# Altium footprint library NXP.PcbLib: 5 footprints (part 2 of 3)
Each footprint in its own frame and in the unit in brackets; x right, y up, seen from the top. Pads: shape width x height; smd on the part's side, far side on the other; paste and mask are expansions set on the pad; w line width, h text height; cw(c..) or ccw(c..) is an arc to the next point about the centre after c.
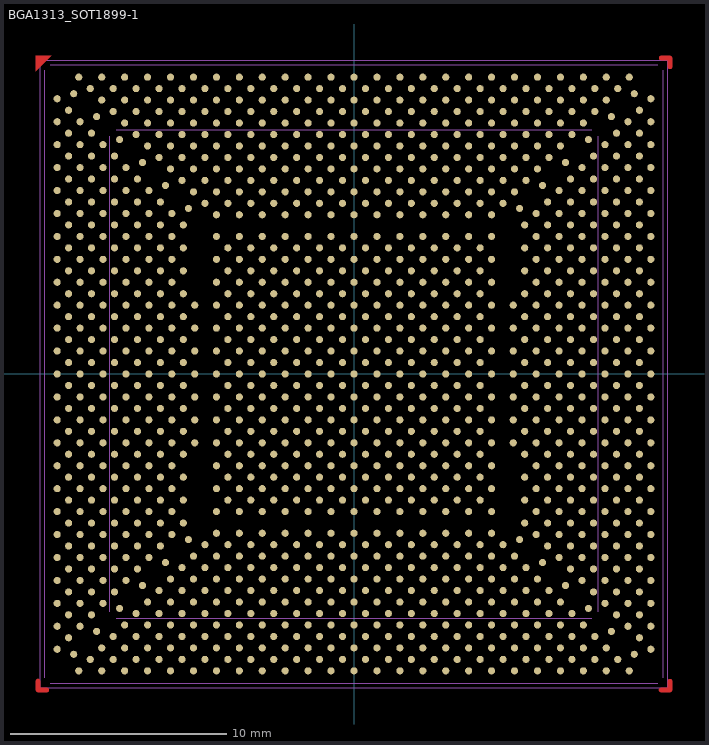
[diagram p1: the footprint, top view; thin cyan lines are the x and y axes]

## BGA1313_SOT1899-1 [mil]
pads (1313):
  round 13 smd mask+1.5: A3(-501.1,540.47) A5(-459.34,540.47) A7(-417.58,540.47) A9(-375.82,540.47) A11(-334.07,540.47) A13(-292.31,540.47) A15(-250.55,540.47) A17(-208.79,540.47) A19(-167.03,540.47) A21(-125.27,540.47) A23(-83.52,540.47) A25(-41.76,540.47) A27(0,540.47) A29(41.76,540.47) A31(83.52,540.47) A33(125.27,540.47) A35(167.03,540.47) A37(208.79,540.47) A39(250.55,540.47) A41(292.31,540.47) A43(334.07,540.47) A45(375.82,540.47) A47(417.58,540.47) A49(459.34,540.47) A51(501.1,540.47) AA1(-540.47,125.27) AA3(-498.71,125.27) AA5(-456.95,125.27) AA7(-415.19,125.27) AA9(-373.44,125.27) AA11(-331.68,125.27) AA13(-289.92,125.27) AA15(-250.55,125.27) AA17(-208.79,125.27) AA19(-167.03,125.27) AA21(-125.27,125.27) AA23(-83.52,125.27) AA25(-41.76,125.27) AA27(0,125.27) AA29(41.76,125.27) AA31(83.52,125.27) AA33(125.27,125.27) AA35(167.03,125.27) AA37(208.79,125.27) AA39(250.55,125.27) AA41(289.92,125.27) AA43(331.68,125.27) AA45(373.44,125.27) AA47(415.19,125.27) AA49(456.95,125.27) AA51(498.71,125.27) AA53(540.47,125.27) AB2(-519.59,104.4) AB4(-477.83,104.4) AB6(-436.07,104.4) AB8(-394.31,104.4) AB10(-352.56,104.4) AB12(-310.8,104.4) AB16(-229.67,104.4) AB18(-187.91,104.4) AB20(-146.15,104.4) AB22(-104.4,104.4) AB24(-62.64,104.4) AB26(-20.88,104.4) AB28(20.88,104.4) AB30(62.64,104.4) AB32(104.4,104.4) AB34(146.15,104.4) AB36(187.91,104.4) AB38(229.67,104.4) AB42(310.8,104.4) AB44(352.56,104.4) AB46(394.31,104.4) AB48(436.07,104.4) AB50(477.83,104.4) AB52(519.59,104.4) AC1(-540.47,83.52) AC3(-498.71,83.52) AC5(-456.95,83.52) AC7(-415.19,83.52) AC9(-373.44,83.52) AC11(-331.68,83.52) AC13(-289.92,83.52) AC15(-250.55,83.52) AC17(-208.79,83.52) AC19(-167.03,83.52) AC21(-125.27,83.52) AC23(-83.52,83.52) AC25(-41.76,83.52) AC27(0,83.52) AC29(41.76,83.52) AC31(83.52,83.52) AC33(125.27,83.52) AC35(167.03,83.52) AC37(208.79,83.52) AC39(250.55,83.52) AC41(289.92,83.52) AC43(331.68,83.52) AC45(373.44,83.52) AC47(415.19,83.52) AC49(456.95,83.52) AC51(498.71,83.52) AC53(540.47,83.52) AD2(-519.59,62.64) AD4(-477.83,62.64) AD6(-436.07,62.64) AD8(-394.32,62.64) AD10(-352.56,62.64) AD12(-310.8,62.64) AD16(-229.67,62.64) AD18(-187.91,62.64) AD20(-146.15,62.64) AD22(-104.4,62.64) AD24(-62.64,62.64) AD26(-20.88,62.64) AD28(20.88,62.64) AD30(62.64,62.64) AD32(104.4,62.64) AD34(146.15,62.64) AD36(187.91,62.64) AD38(229.67,62.64) AD42(310.8,62.64) AD44(352.56,62.64) AD46(394.31,62.64) AD48(436.07,62.64) AD50(477.83,62.64) AD52(519.59,62.64) AE1(-540.47,41.76) AE3(-498.71,41.76) AE5(-456.95,41.76) AE7(-415.19,41.76) AE9(-373.44,41.76) AE11(-331.68,41.76) AE13(-289.92,41.76) AE15(-250.55,41.76) AE17(-208.79,41.76) AE19(-167.03,41.76) AE21(-125.27,41.76) AE23(-83.52,41.76) AE25(-41.76,41.76) AE27(0,41.76) AE29(41.76,41.76) AE31(83.52,41.76) AE33(125.27,41.76) AE35(167.03,41.76) AE37(208.79,41.76) AE39(250.55,41.76) AE41(289.92,41.76) AE43(331.68,41.76) AE45(373.44,41.76) AE47(415.19,41.76) AE49(456.95,41.76) AE51(498.71,41.76) AE53(540.47,41.76) AF2(-519.59,20.88) AF4(-477.83,20.88) AF6(-436.07,20.88) AF8(-394.32,20.88) AF10(-352.56,20.88) AF12(-310.8,20.88) AF16(-229.67,20.88) AF18(-187.91,20.88) AF20(-146.15,20.88) AF22(-104.4,20.88) AF24(-62.64,20.88) AF26(-20.88,20.88) AF28(20.88,20.88) AF30(62.64,20.88) AF32(104.4,20.88) AF34(146.15,20.88) AF36(187.91,20.88) AF38(229.67,20.88) AF42(310.8,20.88) AF44(352.56,20.88) AF46(394.31,20.88) AF48(436.07,20.88) AF50(477.83,20.88) AF52(519.59,20.88) AG1(-540.47,0) AG3(-498.71,0) AG5(-456.95,0) AG7(-415.19,0) AG9(-373.44,0) AG11(-331.68,0) AG13(-289.92,0) AG15(-250.55,0) AG17(-208.79,0) AG19(-167.03,0) AG21(-125.27,0) AG23(-83.52,0) AG25(-41.76,0) AG27(0,0) AG29(41.76,0) AG31(83.52,0) AG33(125.27,0) AG35(167.03,0) AG37(208.79,0) AG39(250.55,0) AG41(289.92,0) AG43(331.68,0) AG45(373.44,0) AG47(415.19,0) AG49(456.95,0) AG51(498.71,0) AG53(540.47,0) AH2(-519.59,-20.88) AH4(-477.83,-20.88) AH6(-436.07,-20.88) AH8(-394.32,-20.88) AH10(-352.56,-20.88) AH12(-310.8,-20.88) AH16(-229.67,-20.88) AH18(-187.91,-20.88) AH20(-146.15,-20.88) AH22(-104.4,-20.88) AH24(-62.64,-20.88) AH26(-20.88,-20.88) AH28(20.88,-20.88) AH30(62.64,-20.88) AH32(104.4,-20.88) AH34(146.15,-20.88) AH36(187.91,-20.88) AH38(229.67,-20.88) AH42(310.8,-20.88) AH44(352.56,-20.88) AH46(394.31,-20.88) AH48(436.07,-20.88) AH50(477.83,-20.88) AH52(519.59,-20.88) AJ1(-540.47,-41.76) AJ3(-498.71,-41.76) AJ5(-456.95,-41.76) AJ7(-415.19,-41.76) AJ9(-373.44,-41.76) AJ11(-331.68,-41.76) AJ13(-289.92,-41.76) AJ15(-250.55,-41.76) AJ17(-208.79,-41.76) AJ19(-167.03,-41.76) AJ21(-125.27,-41.76) AJ23(-83.52,-41.76) AJ25(-41.76,-41.76) AJ27(0,-41.76) AJ29(41.76,-41.76) AJ31(83.52,-41.76) AJ33(125.27,-41.76) AJ35(167.03,-41.76) AJ37(208.79,-41.76) AJ39(250.55,-41.76) AJ41(289.92,-41.76) AJ43(331.68,-41.76) AJ45(373.44,-41.76) AJ47(415.19,-41.76) AJ49(456.95,-41.76) AJ51(498.71,-41.76) AJ53(540.47,-41.76) AK2(-519.59,-62.64) AK4(-477.83,-62.64) AK6(-436.07,-62.64) AK8(-394.32,-62.64) AK10(-352.56,-62.64) AK12(-310.8,-62.64) AK16(-229.67,-62.64) AK18(-187.91,-62.64) AK20(-146.15,-62.64) AK22(-104.4,-62.64) AK24(-62.64,-62.64) AK26(-20.88,-62.64) AK28(20.88,-62.64) AK30(62.64,-62.64) AK32(104.4,-62.64) AK34(146.15,-62.64) AK36(187.91,-62.64) AK38(229.67,-62.64) AK42(310.8,-62.64) AK44(352.56,-62.64) AK46(394.31,-62.64) AK48(436.07,-62.64) AK50(477.83,-62.64) AK52(519.59,-62.64) AL1(-540.47,-83.52) AL3(-498.71,-83.52) AL5(-456.95,-83.52) AL7(-415.19,-83.52) AL9(-373.44,-83.52) AL11(-331.68,-83.52) AL13(-289.92,-83.52) AL15(-250.55,-83.52) AL17(-208.79,-83.52) AL19(-167.03,-83.52) AL21(-125.27,-83.52) AL23(-83.52,-83.52) AL25(-41.76,-83.52) AL27(0,-83.52) AL29(41.76,-83.52) AL31(83.52,-83.52) AL33(125.27,-83.52) AL35(167.03,-83.52) AL37(208.79,-83.52) AL39(250.55,-83.52) AL41(289.92,-83.52) AL43(331.68,-83.52) AL45(373.44,-83.52) AL47(415.19,-83.52) AL49(456.95,-83.52) AL51(498.71,-83.52) AL53(540.47,-83.52) AM2(-519.59,-104.4) AM4(-477.83,-104.4) AM6(-436.07,-104.4) AM8(-394.31,-104.4) AM10(-352.56,-104.4) AM12(-310.8,-104.4) AM16(-229.67,-104.4) AM18(-187.91,-104.4) AM20(-146.15,-104.4) AM22(-104.4,-104.4) AM24(-62.64,-104.4) AM26(-20.88,-104.4) AM28(20.88,-104.4) AM30(62.64,-104.4) AM32(104.4,-104.4) AM34(146.15,-104.4) AM36(187.91,-104.4) AM38(229.67,-104.4) AM42(310.8,-104.4) AM44(352.56,-104.4) AM46(394.31,-104.4) AM48(436.07,-104.4) AM50(477.83,-104.4) AM52(519.59,-104.4) AN1(-540.47,-125.27) AN3(-498.71,-125.27) AN5(-456.95,-125.27) AN7(-415.19,-125.27) AN9(-373.44,-125.27) AN11(-331.68,-125.27) AN13(-289.92,-125.27) AN15(-250.55,-125.27) AN17(-208.79,-125.27) AN19(-167.03,-125.27) AN21(-125.27,-125.27) AN23(-83.52,-125.27) AN25(-41.76,-125.27) AN27(0,-125.27) AN29(41.76,-125.27) AN31(83.52,-125.27) AN33(125.27,-125.27) AN35(167.03,-125.27) AN37(208.79,-125.27) AN39(250.55,-125.27) AN41(289.92,-125.27) AN43(331.68,-125.27) AN45(373.44,-125.27) AN47(415.19,-125.27) AN49(456.95,-125.27) AN51(498.71,-125.27) AN53(540.47,-125.27) AP2(-519.59,-146.15) AP4(-477.83,-146.15) AP6(-436.07,-146.15) AP8(-394.31,-146.15) AP10(-352.56,-146.15) AP12(-310.8,-146.15) AP16(-229.67,-146.15) AP18(-187.91,-146.15) AP20(-146.15,-146.15) AP22(-104.4,-146.15) AP24(-62.64,-146.15) AP26(-20.88,-146.15) AP28(20.88,-146.15) AP30(62.64,-146.15) AP32(104.4,-146.15) AP34(146.15,-146.15) AP36(187.91,-146.15) AP38(229.67,-146.15) AP42(310.8,-146.15) AP44(352.56,-146.15) AP46(394.31,-146.15) AP48(436.07,-146.15) AP50(477.83,-146.15) AP52(519.59,-146.15) AR1(-540.47,-167.03) AR3(-498.71,-167.03) AR5(-456.95,-167.03) AR7(-415.19,-167.03) AR9(-373.44,-167.03) AR11(-331.68,-167.03) AR15(-250.55,-167.03) AR17(-208.79,-167.03) AR19(-167.03,-167.03) AR21(-125.27,-167.03) AR23(-83.52,-167.03) AR25(-41.76,-167.03) AR27(0,-167.03) AR29(41.76,-167.03) AR31(83.52,-167.03) AR33(125.27,-167.03) AR35(167.03,-167.03) AR37(208.79,-167.03) AR39(250.55,-167.03) AR43(331.68,-167.03) AR45(373.44,-167.03) AR47(415.19,-167.03) AR49(456.95,-167.03) AR51(498.71,-167.03) AR53(540.47,-167.03) AT2(-519.59,-187.91) AT4(-477.83,-187.91) AT6(-436.07,-187.91) AT8(-394.31,-187.91) AT10(-352.56,-187.91) AT12(-310.8,-187.91) AT16(-229.67,-187.91) AT18(-187.91,-187.91) AT20(-146.15,-187.91) AT22(-104.4,-187.91) AT24(-62.64,-187.91) AT26(-20.88,-187.91) AT28(20.88,-187.91) AT30(62.64,-187.91) AT32(104.4,-187.91) AT34(146.15,-187.91) AT36(187.91,-187.91) AT38(229.67,-187.91) AT42(310.8,-187.91) AT44(352.56,-187.91) AT46(394.31,-187.91) AT48(436.07,-187.91) AT50(477.83,-187.91) AT52(519.59,-187.91) AU1(-540.47,-208.79) AU3(-498.71,-208.79) AU5(-456.95,-208.79) AU7(-415.19,-208.79) AU9(-373.44,-208.79) AU11(-331.68,-208.79) AU15(-250.55,-208.79) AU17(-208.79,-208.79) AU19(-167.03,-208.79) AU21(-125.27,-208.79) AU23(-83.52,-208.79) AU25(-41.76,-208.79) AU27(0,-208.79) AU29(41.76,-208.79) AU31(83.52,-208.79) AU33(125.27,-208.79) AU35(167.03,-208.79) AU37(208.79,-208.79) AU39(250.55,-208.79) AU43(331.68,-208.79) AU45(373.44,-208.79) AU47(415.19,-208.79) AU49(456.95,-208.79) AU51(498.71,-208.79) AU53(540.47,-208.79) AV2(-519.59,-229.67) AV4(-477.83,-229.67) AV6(-436.07,-229.67) AV8(-394.31,-229.67) AV10(-352.56,-229.67) AV12(-310.8,-229.67) AV16(-229.67,-229.67) AV18(-187.91,-229.67) AV20(-146.15,-229.67) AV22(-104.4,-229.67) AV24(-62.64,-229.67) AV26(-20.88,-229.67) AV28(20.88,-229.67) AV30(62.64,-229.67) AV32(104.4,-229.67) AV34(146.15,-229.67) AV36(187.91,-229.67) AV38(229.67,-229.67) AV42(310.8,-229.67) AV44(352.56,-229.67) AV46(394.31,-229.67) AV48(436.07,-229.67) AV50(477.83,-229.67) AV52(519.59,-229.67) AW1(-540.47,-250.55) AW3(-498.71,-250.55) AW5(-456.95,-250.55) AW7(-415.19,-250.55) AW9(-373.44,-250.55) AW11(-331.68,-250.55) AW15(-250.55,-250.55) AW17(-208.79,-250.55) AW19(-167.03,-250.55) AW21(-125.27,-250.55) AW23(-83.52,-250.55) AW25(-41.76,-250.55) AW27(0,-250.55) AW29(41.76,-250.55) AW31(83.52,-250.55) AW33(125.27,-250.55) AW35(167.03,-250.55) AW37(208.79,-250.55) AW39(250.55,-250.55) AW43(331.68,-250.55) AW45(373.44,-250.55) AW47(415.19,-250.55) AW49(456.95,-250.55) AW51(498.71,-250.55) AW53(540.47,-250.55) AY2(-519.59,-271.43) AY4(-477.83,-271.43) AY6(-436.07,-271.43) AY8(-394.31,-271.43) AY10(-352.56,-271.43) AY12(-310.8,-271.43) AY42(310.8,-271.43) AY44(352.56,-271.43) AY46(394.31,-271.43) AY48(436.07,-271.43) AY50(477.83,-271.43) AY52(519.59,-271.43) B4(-480.22,519.59) B6(-438.46,519.59) B8(-396.7,519.59) B10(-354.94,519.59) B12(-313.19,519.59) B14(-271.43,519.59) B16(-229.67,519.59) B18(-187.91,519.59) B20(-146.15,519.59) B22(-104.4,519.59) B24(-62.64,519.59) B26(-20.88,519.59) B28(20.88,519.59) B30(62.64,519.59) B32(104.4,519.59) B34(146.15,519.59) B36(187.91,519.59) B38(229.67,519.59) B40(271.43,519.59) B42(313.19,519.59) B44(354.94,519.59) B46(396.7,519.59) B48(438.46,519.59) B50(480.22,519.59) BA1(-540.47,-292.31) BA3(-498.71,-292.31) BA5(-456.95,-292.31) BA7(-415.19,-292.31) BA9(-373.44,-292.31) BA11(-331.68,-292.31) BA13(-301.55,-301.55) BA15(-250.55,-289.92) BA17(-208.79,-289.92) BA19(-167.03,-289.92) BA21(-125.27,-289.92) BA23(-83.52,-289.92) BA25(-41.76,-289.92) BA27(0,-289.92) BA29(41.76,-289.92) BA31(83.52,-289.92) BA33(125.27,-289.92) BA35(167.03,-289.92) BA37(208.79,-289.92) BA39(250.55,-289.92) BA41(301.55,-301.55) BA43(331.68,-292.31) BA45(373.44,-292.31) BA47(415.19,-292.31) BA49(456.95,-292.31) BA51(498.71,-292.31) BA53(540.47,-292.31) BB2(-519.59,-313.19) BB4(-477.83,-313.19) BB6(-436.07,-313.19) BB8(-394.31,-313.19) BB10(-352.56,-313.19) BB14(-271.43,-310.8) BB16(-229.67,-310.8) BB18(-187.91,-310.8) BB20(-146.15,-310.8) BB22(-104.4,-310.8) BB24(-62.64,-310.8) BB26(-20.88,-310.8) BB28(20.88,-310.8) BB30(62.64,-310.8) BB32(104.4,-310.8) BB34(146.15,-310.8) BB36(187.91,-310.8) BB38(229.67,-310.8) BB40(271.43,-310.8) BB44(352.56,-313.19) BB46(394.31,-313.19) BB48(436.07,-313.19) BB50(477.83,-313.19) BB52(519.59,-313.19) BC1(-540.47,-334.07) BC3(-498.71,-334.07) BC5(-456.95,-334.07) BC7(-415.19,-334.07) BC9(-373.44,-334.07) BC11(-343.31,-343.31) BC13(-292.31,-331.68) BC15(-250.55,-331.68) BC17(-208.79,-331.68) BC19(-167.03,-331.68) BC21(-125.27,-331.68) BC23(-83.52,-331.68) BC25(-41.76,-331.68) BC27(0,-331.68) BC29(41.76,-331.68) BC31(83.52,-331.68) BC33(125.27,-331.68) BC35(167.03,-331.68) BC37(208.79,-331.68) BC39(250.55,-331.68) BC41(292.31,-331.68) BC43(343.31,-343.31) BC45(373.44,-334.07) BC47(415.19,-334.07) BC49(456.95,-334.07) BC51(498.71,-334.07) BC53(540.47,-334.07) BD2(-519.59,-354.94) BD4(-477.83,-354.94) BD6(-436.07,-354.94) BD8(-394.31,-354.94) BD12(-313.19,-352.56) BD14(-271.43,-352.56) BD16(-229.67,-352.56) BD18(-187.91,-352.56) BD20(-146.15,-352.56) BD22(-104.4,-352.56) BD24(-62.64,-352.56) BD26(-20.88,-352.56) BD28(20.88,-352.56) BD30(62.64,-352.56) BD32(104.4,-352.56) BD34(146.15,-352.56) BD36(187.91,-352.56) BD38(229.67,-352.56) BD40(271.43,-352.56) BD42(313.19,-352.56) BD46(394.31,-354.94) BD48(436.07,-354.94) BD50(477.83,-354.94) BD52(519.59,-354.94) BE1(-540.47,-375.82) BE3(-498.71,-375.82) BE5(-456.95,-375.82) BE7(-415.19,-375.82) BE9(-385.07,-385.07) BE11(-334.07,-373.44) BE13(-292.31,-373.44) BE15(-250.55,-373.44) BE17(-208.79,-373.44) BE19(-167.03,-373.44) BE21(-125.27,-373.44) BE23(-83.52,-373.44) BE25(-41.76,-373.44) BE27(0,-373.44) BE29(41.76,-373.44) BE31(83.52,-373.44) BE33(125.27,-373.44) BE35(167.03,-373.44) BE37(208.79,-373.44) BE39(250.55,-373.44) BE41(292.31,-373.44) BE43(334.07,-373.44) BE45(385.07,-385.07) BE47(415.19,-375.82) BE49(456.95,-375.82) BE51(498.71,-375.82) BE53(540.47,-375.82) BF2(-519.59,-396.7) BF4(-477.83,-396.7) BF6(-436.07,-396.7) BF10(-354.94,-394.31) BF12(-313.19,-394.31) BF14(-271.43,-394.31) BF16(-229.67,-394.31) BF18(-187.91,-394.31) BF20(-146.15,-394.31) BF22(-104.4,-394.31) BF24(-62.64,-394.31) BF26(-20.88,-394.31) BF28(20.88,-394.31) BF30(62.64,-394.31) BF32(104.4,-394.31) BF34(146.15,-394.31) BF36(187.91,-394.31) BF38(229.67,-394.31) BF40(271.43,-394.31) BF42(313.19,-394.31) BF44(354.94,-394.31) BF48(436.07,-396.7) BF50(477.83,-396.7) BF52(519.59,-396.7) BG1(-540.47,-417.58) BG3(-498.71,-417.58) BG5(-456.95,-417.58) BG7(-426.83,-426.83) BG9(-375.82,-415.19) BG11(-334.07,-415.19) BG13(-292.31,-415.19) BG15(-250.55,-415.19) BG17(-208.79,-415.19) BG19(-167.03,-415.19) BG21(-125.27,-415.19) BG23(-83.52,-415.19) BG25(-41.76,-415.19) BG27(0,-415.19) BG29(41.76,-415.19) BG31(83.52,-415.19) BG33(125.27,-415.19) BG35(167.03,-415.19) BG37(208.79,-415.19) BG39(250.55,-415.19) BG41(292.31,-415.19) BG43(334.07,-415.19) BG45(375.82,-415.19) BG47(426.83,-426.83) BG49(456.95,-417.58) BG51(498.71,-417.58) BG53(540.47,-417.58) BH2(-519.59,-438.46) BH4(-477.83,-438.46) BH8(-396.7,-436.07) BH10(-354.94,-436.07) BH12(-313.19,-436.07) BH14(-271.43,-436.07) BH16(-229.67,-436.07) BH18(-187.91,-436.07) BH20(-146.15,-436.07) BH22(-104.4,-436.07) BH24(-62.64,-436.07) BH26(-20.88,-436.07) BH28(20.88,-436.07) BH30(62.64,-436.07) BH32(104.4,-436.07) BH34(146.15,-436.07) BH36(187.91,-436.07) BH38(229.67,-436.07) BH40(271.43,-436.07) BH42(313.19,-436.07) BH44(354.94,-436.07) BH46(396.7,-436.07) BH50(477.83,-438.46) BH52(519.59,-438.46) BJ1(-540.47,-459.34) BJ3(-498.71,-459.34) BJ5(-468.59,-468.59) BJ7(-417.58,-456.95) BJ9(-375.82,-456.95) BJ11(-334.07,-456.95) BJ13(-292.31,-456.95) BJ15(-250.55,-456.95) BJ17(-208.79,-456.95) BJ19(-167.03,-456.95) BJ21(-125.27,-456.95) BJ23(-83.52,-456.95) BJ25(-41.76,-456.95) BJ27(0,-456.95) BJ29(41.76,-456.95) BJ31(83.52,-456.95) BJ33(125.27,-456.95) BJ35(167.03,-456.95) BJ37(208.79,-456.95) BJ39(250.55,-456.95) BJ41(292.31,-456.95) BJ43(334.07,-456.95) BJ45(375.82,-456.95) BJ47(417.58,-456.95) BJ49(468.59,-468.59) BJ51(498.71,-459.34) BJ53(540.47,-459.34) BK2(-519.59,-480.22) BK6(-438.46,-477.83) BK8(-396.7,-477.83) BK10(-354.94,-477.83) BK12(-313.19,-477.83) BK14(-271.43,-477.83) BK16(-229.67,-477.83) BK18(-187.91,-477.83) BK20(-146.15,-477.83) BK22(-104.4,-477.83) BK24(-62.64,-477.83) BK26(-20.88,-477.83) BK28(20.88,-477.83) BK30(62.64,-477.83) BK32(104.4,-477.83) BK34(146.15,-477.83) BK36(187.91,-477.83) BK38(229.67,-477.83) BK40(271.43,-477.83) BK42(313.19,-477.83) BK44(354.94,-477.83) BK46(396.7,-477.83) BK48(438.46,-477.83) BK52(519.59,-480.22) BL1(-540.47,-501.1) BL3(-510.34,-510.34) BL5(-459.34,-498.71) BL7(-417.58,-498.71) BL9(-375.82,-498.71) BL11(-334.07,-498.71) BL13(-292.31,-498.71) BL15(-250.55,-498.71) BL17(-208.79,-498.71) BL19(-167.03,-498.71) BL21(-125.27,-498.71) BL23(-83.52,-498.71) BL25(-41.76,-498.71) BL27(0,-498.71) BL29(41.76,-498.71) BL31(83.52,-498.71) BL33(125.27,-498.71) BL35(167.03,-498.71) BL37(208.79,-498.71) BL39(250.55,-498.71) BL41(292.31,-498.71) BL43(334.07,-498.71) BL45(375.82,-498.71) BL47(417.58,-498.71) BL49(459.34,-498.71) BL51(510.34,-510.34) BL53(540.47,-501.1) BM4(-480.22,-519.59) BM6(-438.46,-519.59) BM8(-396.7,-519.59) BM10(-354.94,-519.59) BM12(-313.19,-519.59) BM14(-271.43,-519.59) BM16(-229.67,-519.59) BM18(-187.91,-519.59) BM20(-146.15,-519.59) BM22(-104.4,-519.59) BM24(-62.64,-519.59) BM26(-20.88,-519.59) BM28(20.88,-519.59) BM30(62.64,-519.59) BM32(104.4,-519.59) BM34(146.15,-519.59) BM36(187.91,-519.59) BM38(229.67,-519.59) BM40(271.43,-519.59) BM42(313.19,-519.59) BM44(354.94,-519.59) BM46(396.7,-519.59) BM48(438.46,-519.59) BM50(480.22,-519.59) BN3(-501.1,-540.47) BN5(-459.34,-540.47) BN7(-417.58,-540.47) BN9(-375.82,-540.47) BN11(-334.07,-540.47) BN13(-292.31,-540.47) BN15(-250.55,-540.47) BN17(-208.79,-540.47) BN19(-167.03,-540.47) BN21(-125.27,-540.47) BN23(-83.52,-540.47) BN25(-41.76,-540.47) BN27(0,-540.47) BN29(41.76,-540.47) BN31(83.52,-540.47) BN33(125.27,-540.47) BN35(167.03,-540.47) BN37(208.79,-540.47) BN39(250.55,-540.47) BN41(292.31,-540.47) BN43(334.07,-540.47) BN45(375.82,-540.47) BN47(417.58,-540.47) BN49(459.34,-540.47) BN51(501.1,-540.47) C1(-540.47,501.1) C3(-510.34,510.34) C5(-459.34,498.71) C7(-417.58,498.71) C9(-375.82,498.71) C11(-334.07,498.71) C13(-292.31,498.71) C15(-250.55,498.71) C17(-208.79,498.71) C19(-167.03,498.71) C21(-125.27,498.71) C23(-83.52,498.71) C25(-41.76,498.71) C27(0,498.71) C29(41.76,498.71) C31(83.52,498.71) C33(125.27,498.71) C35(167.03,498.71) C37(208.79,498.71) C39(250.55,498.71) C41(292.31,498.71) C43(334.07,498.71) C45(375.82,498.71) C47(417.58,498.71) C49(459.34,498.71) C51(510.34,510.34) C53(540.47,501.1) D2(-519.59,480.22) D6(-438.46,477.83) D8(-396.7,477.83) D10(-354.94,477.83) D12(-313.19,477.83) D14(-271.43,477.83) D16(-229.67,477.83) D18(-187.91,477.83) D20(-146.15,477.83) D22(-104.4,477.83) D24(-62.64,477.83) D26(-20.88,477.83) D28(20.88,477.83) D30(62.64,477.83) D32(104.4,477.83) D34(146.15,477.83) D36(187.91,477.83) D38(229.67,477.83) D40(271.43,477.83) D42(313.19,477.83) D44(354.94,477.83) D46(396.7,477.83) D48(438.46,477.83) D52(519.59,480.22) E1(-540.47,459.34) E3(-498.71,459.34) E5(-468.59,468.59) E7(-417.58,456.95) E9(-375.82,456.95) E11(-334.07,456.95) E13(-292.31,456.95) E15(-250.55,456.95) E17(-208.79,456.95) E19(-167.03,456.95) E21(-125.27,456.95) E23(-83.52,456.95) E25(-41.76,456.95) E27(0,456.95) E29(41.76,456.95) E31(83.52,456.95) E33(125.27,456.95) E35(167.03,456.95) E37(208.79,456.95) E39(250.55,456.95) E41(292.31,456.95) E43(334.07,456.95) E45(375.82,456.95) E47(417.58,456.95) E49(468.59,468.59) E51(498.71,459.34) E53(540.47,459.34) F2(-519.59,438.46) F4(-477.83,438.46) F8(-396.7,436.07) F10(-354.94,436.07) F12(-313.19,436.07) F14(-271.43,436.07) F16(-229.67,436.07) F18(-187.91,436.07) F20(-146.15,436.07) F22(-104.4,436.07) F24(-62.64,436.07) F26(-20.88,436.07) F28(20.88,436.07) F30(62.64,436.07) F32(104.4,436.07) F34(146.15,436.07) F36(187.91,436.07) F38(229.67,436.07) F40(271.43,436.07) F42(313.19,436.07) F44(354.94,436.07) F46(396.7,436.07) F50(477.83,438.46) F52(519.59,438.46) G1(-540.47,417.58) G3(-498.71,417.58) G5(-456.95,417.58) G7(-426.83,426.83) G9(-375.82,415.19) G11(-334.07,415.19) G13(-292.31,415.19) G15(-250.55,415.19) G17(-208.79,415.19) G19(-167.03,415.19) G21(-125.27,415.19) G23(-83.52,415.19) G25(-41.76,415.19) G27(0,415.19) G29(41.76,415.19) G31(83.52,415.19) G33(125.27,415.19) G35(167.03,415.19) G37(208.79,415.19) G39(250.55,415.19) G41(292.31,415.19) G43(334.07,415.19) G45(375.82,415.19) G47(426.83,426.83) G49(456.95,417.58) G51(498.71,417.58) G53(540.47,417.58) H2(-519.59,396.7) H4(-477.83,396.7) H6(-436.07,396.7) H10(-354.94,394.31) H12(-313.19,394.31) H14(-271.43,394.31) H16(-229.67,394.31) H18(-187.91,394.31) H20(-146.15,394.31) H22(-104.4,394.31) H24(-62.64,394.31) H26(-20.88,394.31) H28(20.88,394.31) H30(62.64,394.31) H32(104.4,394.31) H34(146.15,394.31) H36(187.91,394.31) H38(229.67,394.31) H40(271.43,394.31) H42(313.19,394.31) H44(354.94,394.31) H48(436.07,396.7) H50(477.83,396.7) H52(519.59,396.7) J1(-540.47,375.82) J3(-498.71,375.82) J5(-456.95,375.82) J7(-415.19,375.82) J9(-385.07,385.07) J11(-334.07,373.44) J13(-292.31,373.44) J15(-250.55,373.44) J17(-208.79,373.44) J19(-167.03,373.44) J21(-125.27,373.44) J23(-83.52,373.44) J25(-41.76,373.44) J27(0,373.44) J29(41.76,373.44) J31(83.52,373.44) J33(125.27,373.44) J35(167.03,373.44) J37(208.79,373.44) J39(250.55,373.44) J41(292.31,373.44) J43(334.07,373.44) J45(385.07,385.07) J47(415.19,375.82) J49(456.95,375.82) J51(498.71,375.82) J53(540.47,375.82) K2(-519.59,354.94) K4(-477.83,354.94) K6(-436.07,354.94) K8(-394.31,354.94) K12(-313.19,352.56) K14(-271.43,352.56) K16(-229.67,352.56) K18(-187.91,352.56) K20(-146.15,352.56) K22(-104.4,352.56) K24(-62.64,352.56) K26(-20.88,352.56) K28(20.88,352.56) K30(62.64,352.56) K32(104.4,352.56) K34(146.15,352.56) K36(187.91,352.56) K38(229.67,352.56) K40(271.43,352.56) K42(313.19,352.56) K46(394.31,354.94) K48(436.07,354.94) K50(477.83,354.94) K52(519.59,354.94) L1(-540.47,334.07) L3(-498.71,334.07) L5(-456.95,334.07) L7(-415.19,334.07) L9(-373.44,334.07) L11(-343.31,343.31) L13(-292.31,331.68) L15(-250.55,331.68) L17(-208.79,331.68) L19(-167.03,331.68) L21(-125.27,331.68) L23(-83.52,331.68) L25(-41.76,331.68) L27(0,331.68) L29(41.76,331.68) L31(83.52,331.68) L33(125.27,331.68) L35(167.03,331.68) L37(208.79,331.68) L39(250.55,331.68) L41(292.31,331.68) L43(343.31,343.31) L45(373.44,334.07) L47(415.19,334.07) L49(456.95,334.07) L51(498.71,334.07) L53(540.47,334.07) M2(-519.59,313.19) M4(-477.83,313.19) M6(-436.07,313.19) M8(-394.31,313.19) M10(-352.56,313.19) M14(-271.43,310.8) M16(-229.67,310.8) M18(-187.91,310.8) M20(-146.15,310.8) M22(-104.4,310.8) M24(-62.64,310.8) M26(-20.88,310.8) M28(20.88,310.8) M30(62.64,310.8) M32(104.4,310.8) M34(146.15,310.8) M36(187.91,310.8) M38(229.67,310.8) M40(271.43,310.8) M44(352.56,313.19) M46(394.31,313.19) M48(436.07,313.19) M50(477.83,313.19) M52(519.59,313.19) N1(-540.47,292.31) N3(-498.71,292.31) N5(-456.95,292.31) N7(-415.19,292.31) N9(-373.44,292.31) N11(-331.68,292.31) N13(-301.55,301.55) N15(-250.55,289.92) N17(-208.79,289.92) N19(-167.03,289.92) N21(-125.27,289.92) N23(-83.52,289.92) N25(-41.76,289.92) N27(0,289.92) N29(41.76,289.92) N31(83.52,289.92) N33(125.27,289.92) N35(167.03,289.92) N37(208.79,289.92) N39(250.55,289.92) N41(301.55,301.55) N43(331.68,292.31) N45(373.44,292.31) N47(415.19,292.31) N49(456.95,292.31) N51(498.71,292.31) N53(540.47,292.31) P2(-519.59,271.43) P4(-477.83,271.43) P6(-436.07,271.43) P8(-394.31,271.43) P10(-352.56,271.43) P12(-310.8,271.43) P42(310.8,271.43) P44(352.56,271.43) P46(394.31,271.43) P48(436.07,271.43) P50(477.83,271.43) P52(519.59,271.43) R1(-540.47,250.55) R3(-498.71,250.55) R5(-456.95,250.55) R7(-415.19,250.55) R9(-373.44,250.55) R11(-331.68,250.55) R15(-250.55,250.55) R17(-208.79,250.55) R19(-167.03,250.55) R21(-125.27,250.55) R23(-83.52,250.55) R25(-41.76,250.55) R27(0,250.55) R29(41.76,250.55) R31(83.52,250.55) R33(125.27,250.55) R35(167.03,250.55) R37(208.79,250.55) R39(250.55,250.55) R43(331.68,250.55) R45(373.44,250.55) R47(415.19,250.55) R49(456.95,250.55) R51(498.71,250.55) R53(540.47,250.55) T2(-519.59,229.67) T4(-477.83,229.67) T6(-436.07,229.67) T8(-394.31,229.67) T10(-352.56,229.67) T12(-310.8,229.67) T16(-229.67,229.67) T18(-187.91,229.67) T20(-146.15,229.67) T22(-104.4,229.67) T24(-62.64,229.67) T26(-20.88,229.67) T28(20.88,229.67) T30(62.64,229.67) T32(104.4,229.67) T34(146.15,229.67) T36(187.91,229.67) T38(229.67,229.67) T42(310.8,229.67) T44(352.56,229.67) T46(394.31,229.67) T48(436.07,229.67) T50(477.83,229.67) T52(519.59,229.67) U1(-540.47,208.79) U3(-498.71,208.79) U5(-456.95,208.79) U7(-415.19,208.79) U9(-373.44,208.79) U11(-331.68,208.79) U15(-250.55,208.79) U17(-208.79,208.79) U19(-167.03,208.79) U21(-125.27,208.79) U23(-83.52,208.79) U25(-41.76,208.79) U27(0,208.79) U29(41.76,208.79) U31(83.52,208.79) U33(125.27,208.79) U35(167.03,208.79) U37(208.79,208.79) U39(250.55,208.79) U43(331.68,208.79) U45(373.44,208.79) U47(415.19,208.79) U49(456.95,208.79) U51(498.71,208.79) U53(540.47,208.79) V2(-519.59,187.91) V4(-477.83,187.91) V6(-436.07,187.91) V8(-394.31,187.91) V10(-352.56,187.91) V12(-310.8,187.91) V16(-229.67,187.91) V18(-187.91,187.91) V20(-146.15,187.91) V22(-104.4,187.91) V24(-62.64,187.91) V26(-20.88,187.91) V28(20.88,187.91) V30(62.64,187.91) V32(104.4,187.91) V34(146.15,187.91) V36(187.91,187.91) V38(229.67,187.91) V42(310.8,187.91) V44(352.56,187.91) V46(394.31,187.91) V48(436.07,187.91) V50(477.83,187.91) V52(519.59,187.91) W1(-540.47,167.03) W3(-498.71,167.03) W5(-456.95,167.03) W7(-415.19,167.03) W9(-373.44,167.03) W11(-331.68,167.03) W15(-250.55,167.03) W17(-208.79,167.03) W19(-167.03,167.03) W21(-125.27,167.03) W23(-83.52,167.03) W25(-41.76,167.03) W27(0,167.03) W29(41.76,167.03) W31(83.52,167.03) W33(125.27,167.03) W35(167.03,167.03) W37(208.79,167.03) W39(250.55,167.03) W43(331.68,167.03) W45(373.44,167.03) W47(415.19,167.03) W49(456.95,167.03) W51(498.71,167.03) W53(540.47,167.03) Y2(-519.59,146.15) Y4(-477.83,146.15) Y6(-436.07,146.15) Y8(-394.31,146.15) Y10(-352.56,146.15) Y12(-310.8,146.15) Y16(-229.67,146.15) Y18(-187.91,146.15) Y20(-146.15,146.15) Y22(-104.4,146.15) Y24(-62.64,146.15) Y26(-20.88,146.15) Y28(20.88,146.15) Y30(62.64,146.15) Y32(104.4,146.15) Y34(146.15,146.15) Y36(187.91,146.15) Y38(229.67,146.15) Y42(310.8,146.15) Y44(352.56,146.15) Y46(394.31,146.15) Y48(436.07,146.15) Y50(477.83,146.15) Y52(519.59,146.15)
Top Layer:
  region: 559.33,-571.33 558.53,-571.33 557.06,-571.94 555.94,-573.07 555.33,-574.54 555.33,-575.33 555.33,-576.13 555.94,-577.6 557.06,-578.72 558.53,-579.33 559.33,-579.33 575.33,-579.33 576.13,-579.33 577.6,-578.72 578.72,-577.6 579.33,-576.13 579.33,-575.33 579.33,-559.33 579.33,-558.54 578.72,-557.07 577.6,-555.94 576.13,-555.33 575.33,-555.33 574.53,-555.33 573.06,-555.94 571.94,-557.07 571.33,-558.54 571.33,-559.33 571.33,-569.33 571.29,-569.72 570.99,-570.44 570.44,-570.99 569.72,-571.29 569.33,-571.33
  region: -571.33,-559.33 -571.33,-558.53 -571.94,-557.06 -573.07,-555.94 -574.54,-555.33 -575.33,-555.33 -576.13,-555.33 -577.6,-555.94 -578.72,-557.06 -579.33,-558.53 -579.33,-559.33 -579.33,-575.33 -579.33,-576.13 -578.72,-577.6 -577.6,-578.72 -576.13,-579.33 -575.33,-579.33 -559.33,-579.33 -558.54,-579.33 -557.07,-578.72 -555.94,-577.6 -555.33,-576.13 -555.33,-575.33 -555.33,-574.53 -555.94,-573.06 -557.07,-571.94 -558.54,-571.33 -559.33,-571.33 -569.33,-571.33 -569.72,-571.29 -570.44,-570.99 -570.99,-570.44 -571.29,-569.72 -571.33,-569.33
  region: 571.33,559.33 571.33,558.53 571.94,557.06 573.07,555.94 574.54,555.33 575.33,555.33 576.13,555.33 577.6,555.94 578.72,557.06 579.33,558.53 579.33,559.33 579.33,575.33 579.33,576.13 578.72,577.6 577.6,578.72 576.13,579.33 575.33,579.33 559.33,579.33 558.54,579.33 557.07,578.72 555.94,577.6 555.33,576.13 555.33,575.33 555.33,574.53 555.94,573.06 557.07,571.94 558.54,571.33 559.33,571.33 569.33,571.33 569.72,571.29 570.44,570.99 570.99,570.44 571.29,569.72 571.33,569.33
  region: -579.33,579.33 -579.33,550.79 -550.79,579.33
Top Component Outline:
  lines w1: -563,-553.15 -563,553.15 ; -553.15,-563 553.15,-563 ; -553.15,563 553.15,563 ; -444.88,-433.07 -444.88,433.07 ; -433.07,-444.88 433.07,-444.88 ; -433.07,444.88 433.07,444.88 ; 444.88,-433.07 444.88,433.07 ; 563,-553.15 563,553.15 ; -570.87,-570.87 -570.87,570.87 570.87,570.87 570.87,-570.87 -570.87,-570.87
3D body: height 12.48, standoff -2.48, extent 502.96,-517.71 517.83,-502.98
3D body: height 12.48, standoff -2.48, extent 461.2,-475.95 476.07,-461.22
3D body: height 12.48, standoff -2.48, extent 419.44,-434.2 434.31,-419.46
3D body: height 12.48, standoff -2.48, extent 377.68,-392.44 392.55,-377.7
3D body: height 12.48, standoff -2.48, extent 335.92,-350.68 350.79,-335.95
3D body: height 12.48, standoff -2.48, extent 294.16,-308.92 309.04,-294.19
3D body: height 12.48, standoff -2.48, extent 282.53,-49.13 297.4,-34.39
3D body: height 12.48, standoff -2.48, extent 282.53,-90.89 297.4,-76.15
3D body: height 12.48, standoff -2.48, extent 282.53,-132.64 297.4,-117.91
3D body: height 12.48, standoff -2.48, extent 282.53,-7.37 297.4,7.36
3D body: height 12.48, standoff -2.48, extent 282.53,34.39 297.4,49.12
3D body: height 12.48, standoff -2.48, extent 282.53,76.15 297.4,90.88
3D body: height 12.48, standoff -2.48, extent 282.53,117.91 297.4,132.64
3D body: height 12.48, standoff -2.48, extent 303.41,-278.8 318.28,-264.06
3D body: height 12.48, standoff -2.48, extent 303.41,-237.04 318.28,-222.31
3D body: height 12.48, standoff -2.48, extent 303.41,-195.28 318.28,-180.55
3D body: height 12.48, standoff -2.48, extent 303.41,-28.25 318.28,-13.51
3D body: height 12.48, standoff -2.48, extent 303.41,-70.01 318.28,-55.27
3D body: height 12.48, standoff -2.48, extent 303.41,-111.76 318.28,-97.03
3D body: height 12.48, standoff -2.48, extent 303.41,-153.52 318.28,-138.79
3D body: height 12.48, standoff -2.48, extent 303.41,13.51 318.28,28.24
3D body: height 12.48, standoff -2.48, extent 303.41,55.27 318.28,70
3D body: height 12.48, standoff -2.48, extent 303.41,97.03 318.28,111.76
3D body: height 12.48, standoff -2.48, extent 303.41,264.06 318.28,278.79
3D body: height 12.48, standoff -2.48, extent 303.41,222.3 318.28,237.03
3D body: height 12.48, standoff -2.48, extent 303.41,180.54 318.28,195.28
3D body: height 12.48, standoff -2.48, extent 303.41,138.79 318.28,153.52
3D body: height 12.48, standoff -2.48, extent 324.29,-299.68 339.16,-284.94
3D body: height 12.48, standoff -2.48, extent 324.29,-257.92 339.16,-243.19
3D body: height 12.48, standoff -2.48, extent 324.29,-216.16 339.16,-201.43
3D body: height 12.48, standoff -2.48, extent 324.29,-174.4 339.16,-159.67
3D body: height 12.48, standoff -2.48, extent 324.29,-7.37 339.16,7.36
3D body: height 12.48, standoff -2.48, extent 324.29,-49.13 339.16,-34.39
3D body: height 12.48, standoff -2.48, extent 324.29,-90.89 339.16,-76.15
3D body: height 12.48, standoff -2.48, extent 324.29,-132.64 339.16,-117.91
3D body: height 12.48, standoff -2.48, extent 324.29,34.39 339.16,49.12
3D body: height 12.48, standoff -2.48, extent 324.29,76.15 339.16,90.88
3D body: height 12.48, standoff -2.48, extent 324.29,117.91 339.16,132.64
3D body: height 12.48, standoff -2.48, extent 324.29,284.94 339.16,299.67
3D body: height 12.48, standoff -2.48, extent 324.29,243.18 339.16,257.91
3D body: height 12.48, standoff -2.48, extent 324.29,201.42 339.16,216.16
3D body: height 12.48, standoff -2.48, extent 324.29,159.66 339.16,174.4
3D body: height 12.48, standoff -2.48, extent 345.17,-278.8 360.04,-264.06
3D body: height 12.48, standoff -2.48, extent 345.17,-320.56 360.04,-305.82
3D body: height 12.48, standoff -2.48, extent 345.17,-237.04 360.04,-222.31
3D body: height 12.48, standoff -2.48, extent 345.17,-195.28 360.04,-180.55
3D body: height 12.48, standoff -2.48, extent 345.17,-153.52 360.04,-138.79
3D body: height 12.48, standoff -2.48, extent 345.17,13.51 360.04,28.24
3D body: height 12.48, standoff -2.48, extent 345.17,-28.25 360.04,-13.51
3D body: height 12.48, standoff -2.48, extent 345.17,-70.01 360.04,-55.27
3D body: height 12.48, standoff -2.48, extent 345.17,-111.76 360.04,-97.03
3D body: height 12.48, standoff -2.48, extent 345.17,55.27 360.04,70
3D body: height 12.48, standoff -2.48, extent 345.17,97.03 360.04,111.76
3D body: height 12.48, standoff -2.48, extent 345.17,138.79 360.04,153.52
3D body: height 12.48, standoff -2.48, extent 345.17,305.82 360.04,320.55
3D body: height 12.48, standoff -2.48, extent 345.17,264.06 360.04,278.79
3D body: height 12.48, standoff -2.48, extent 345.17,222.3 360.04,237.03
3D body: height 12.48, standoff -2.48, extent 345.17,180.54 360.04,195.28
3D body: height 12.48, standoff -2.48, extent 366.05,-257.92 380.92,-243.19
3D body: height 12.48, standoff -2.48, extent 366.05,-299.68 380.92,-284.94
3D body: height 12.48, standoff -2.48, extent 366.05,-341.43 380.92,-326.7
3D body: height 12.48, standoff -2.48, extent 366.05,-216.16 380.92,-201.43
3D body: height 12.48, standoff -2.48, extent 366.05,-174.4 380.92,-159.67
3D body: height 12.48, standoff -2.48, extent 366.05,-132.64 380.92,-117.91
3D body: height 12.48, standoff -2.48, extent 366.05,34.39 380.92,49.12
3D body: height 12.48, standoff -2.48, extent 366.05,-7.37 380.92,7.36
3D body: height 12.48, standoff -2.48, extent 366.05,-49.13 380.92,-34.39
3D body: height 12.48, standoff -2.48, extent 366.05,-90.89 380.92,-76.15
3D body: height 12.48, standoff -2.48, extent 366.05,76.15 380.92,90.88
3D body: height 12.48, standoff -2.48, extent 366.05,117.91 380.92,132.64
3D body: height 12.48, standoff -2.48, extent 366.05,159.66 380.92,174.4
3D body: height 12.48, standoff -2.48, extent 366.05,326.7 380.92,341.43
3D body: height 12.48, standoff -2.48, extent 366.05,284.94 380.92,299.67
3D body: height 12.48, standoff -2.48, extent 366.05,243.18 380.92,257.91
3D body: height 12.48, standoff -2.48, extent 366.05,201.42 380.92,216.16
3D body: height 12.48, standoff -2.48, extent 386.93,-237.04 401.8,-222.31
3D body: height 12.48, standoff -2.48, extent 386.93,-278.8 401.8,-264.06
3D body: height 12.48, standoff -2.48, extent 386.93,-320.56 401.8,-305.82
3D body: height 12.48, standoff -2.48, extent 386.93,-362.31 401.8,-347.58
3D body: height 12.48, standoff -2.48, extent 386.93,-195.28 401.8,-180.55
3D body: height 12.48, standoff -2.48, extent 386.93,-153.52 401.8,-138.79
3D body: height 12.48, standoff -2.48, extent 386.93,-111.76 401.8,-97.03
3D body: height 12.48, standoff -2.48, extent 386.93,55.27 401.8,70
3D body: height 12.48, standoff -2.48, extent 386.93,13.51 401.8,28.24
3D body: height 12.48, standoff -2.48, extent 386.93,-28.25 401.8,-13.51
3D body: height 12.48, standoff -2.48, extent 386.93,-70.01 401.8,-55.27
3D body: height 12.48, standoff -2.48, extent 386.93,97.03 401.8,111.76
3D body: height 12.48, standoff -2.48, extent 386.93,138.79 401.8,153.52
3D body: height 12.48, standoff -2.48, extent 386.93,180.54 401.8,195.28
3D body: height 12.48, standoff -2.48, extent 386.93,347.58 401.8,362.31
3D body: height 12.48, standoff -2.48, extent 386.93,305.82 401.8,320.55
3D body: height 12.48, standoff -2.48, extent 386.93,264.06 401.8,278.79
3D body: height 12.48, standoff -2.48, extent 386.93,222.3 401.8,237.03
3D body: height 12.48, standoff -2.48, extent 407.81,-383.19 422.68,-368.46
3D body: height 12.48, standoff -2.48, extent 407.81,-216.16 422.68,-201.43
3D body: height 12.48, standoff -2.48, extent 407.81,-257.92 422.68,-243.19
3D body: height 12.48, standoff -2.48, extent 407.81,-299.68 422.68,-284.94
3D body: height 12.48, standoff -2.48, extent 407.81,-341.43 422.68,-326.7
3D body: height 12.48, standoff -2.48, extent 407.81,-174.4 422.68,-159.67
3D body: height 12.48, standoff -2.48, extent 407.81,-132.64 422.68,-117.91
3D body: height 12.48, standoff -2.48, extent 407.81,-90.89 422.68,-76.15
3D body: height 12.48, standoff -2.48, extent 407.81,76.15 422.68,90.88
3D body: height 12.48, standoff -2.48, extent 407.81,34.39 422.68,49.12
3D body: height 12.48, standoff -2.48, extent 407.81,-7.37 422.68,7.36
3D body: height 12.48, standoff -2.48, extent 407.81,-49.13 422.68,-34.39
3D body: height 12.48, standoff -2.48, extent 407.81,117.91 422.68,132.64
3D body: height 12.48, standoff -2.48, extent 407.81,159.66 422.68,174.4
3D body: height 12.48, standoff -2.48, extent 407.81,201.42 422.68,216.16
3D body: height 12.48, standoff -2.48, extent 407.81,368.46 422.68,383.19
3D body: height 12.48, standoff -2.48, extent 407.81,326.7 422.68,341.43
3D body: height 12.48, standoff -2.48, extent 407.81,284.94 422.68,299.67
3D body: height 12.48, standoff -2.48, extent 407.81,243.18 422.68,257.91
3D body: height 12.48, standoff -2.48, extent 428.69,-404.07 443.56,-389.34
3D body: height 12.48, standoff -2.48, extent 428.69,-362.31 443.56,-347.58
3D body: height 12.48, standoff -2.48, extent 428.69,-195.28 443.56,-180.55
3D body: height 12.48, standoff -2.48, extent 428.69,-237.04 443.56,-222.31
3D body: height 12.48, standoff -2.48, extent 428.69,-278.8 443.56,-264.06
3D body: height 12.48, standoff -2.48, extent 428.69,-320.56 443.56,-305.82
3D body: height 12.48, standoff -2.48, extent 428.69,-153.52 443.56,-138.79
3D body: height 12.48, standoff -2.48, extent 428.69,-111.76 443.56,-97.03
3D body: height 12.48, standoff -2.48, extent 428.69,-70.01 443.56,-55.27
3D body: height 12.48, standoff -2.48, extent 428.69,97.03 443.56,111.76
3D body: height 12.48, standoff -2.48, extent 428.69,55.27 443.56,70
3D body: height 12.48, standoff -2.48, extent 428.69,13.51 443.56,28.24
3D body: height 12.48, standoff -2.48, extent 428.69,-28.25 443.56,-13.51
3D body: height 12.48, standoff -2.48, extent 428.69,138.79 443.56,153.52
3D body: height 12.48, standoff -2.48, extent 428.69,180.54 443.56,195.28
3D body: height 12.48, standoff -2.48, extent 428.69,222.3 443.56,237.03
3D body: height 12.48, standoff -2.48, extent 428.69,389.33 443.56,404.07
3D body: height 12.48, standoff -2.48, extent 428.69,347.58 443.56,362.31
3D body: height 12.48, standoff -2.48, extent 428.69,305.82 443.56,320.55
3D body: height 12.48, standoff -2.48, extent 428.69,264.06 443.56,278.79
3D body: height 12.48, standoff -2.48, extent 449.56,-424.95 464.43,-410.22
3D body: height 12.48, standoff -2.48, extent 449.56,-383.19 464.43,-368.46
3D body: height 12.48, standoff -2.48, extent 449.56,-341.43 464.43,-326.7
3D body: height 12.48, standoff -2.48, extent 449.56,-174.4 464.43,-159.67
3D body: height 12.48, standoff -2.48, extent 449.56,-216.16 464.43,-201.43
3D body: height 12.48, standoff -2.48, extent 449.56,-257.92 464.43,-243.19
3D body: height 12.48, standoff -2.48, extent 449.56,-299.68 464.43,-284.94
3D body: height 12.48, standoff -2.48, extent 449.56,-132.64 464.43,-117.91
3D body: height 12.48, standoff -2.48, extent 449.56,-90.89 464.43,-76.15
3D body: height 12.48, standoff -2.48, extent 449.56,-49.13 464.43,-34.39
3D body: height 12.48, standoff -2.48, extent 449.56,117.91 464.43,132.64
3D body: height 12.48, standoff -2.48, extent 449.56,76.15 464.43,90.88
3D body: height 12.48, standoff -2.48, extent 449.56,34.39 464.43,49.12
3D body: height 12.48, standoff -2.48, extent 449.56,-7.37 464.43,7.36
3D body: height 12.48, standoff -2.48, extent 449.56,159.66 464.43,174.4
3D body: height 12.48, standoff -2.48, extent 449.56,201.42 464.43,216.16
3D body: height 12.48, standoff -2.48, extent 449.56,243.18 464.43,257.91
3D body: height 12.48, standoff -2.48, extent 449.56,410.21 464.43,424.95
3D body: height 12.48, standoff -2.48, extent 449.56,368.46 464.43,383.19
3D body: height 12.48, standoff -2.48, extent 449.56,326.7 464.43,341.43
3D body: height 12.48, standoff -2.48, extent 449.56,284.94 464.43,299.67
3D body: height 12.48, standoff -2.48, extent 470.44,-445.83 485.31,-431.1
3D body: height 12.48, standoff -2.48, extent 470.44,-404.07 485.31,-389.34
3D body: height 12.48, standoff -2.48, extent 470.44,-362.31 485.31,-347.58
3D body: height 12.48, standoff -2.48, extent 470.44,-320.56 485.31,-305.82
3D body: height 12.48, standoff -2.48, extent 470.44,-153.52 485.31,-138.79
3D body: height 12.48, standoff -2.48, extent 470.44,-195.28 485.31,-180.55
3D body: height 12.48, standoff -2.48, extent 470.44,-237.04 485.31,-222.31
3D body: height 12.48, standoff -2.48, extent 470.44,-278.8 485.31,-264.06
3D body: height 12.48, standoff -2.48, extent 470.44,-111.76 485.31,-97.03
3D body: height 12.48, standoff -2.48, extent 470.44,-70.01 485.31,-55.27
3D body: height 12.48, standoff -2.48, extent 470.44,-28.25 485.31,-13.51
3D body: height 12.48, standoff -2.48, extent 470.44,138.79 485.31,153.52
3D body: height 12.48, standoff -2.48, extent 470.44,97.03 485.31,111.76
3D body: height 12.48, standoff -2.48, extent 470.44,55.27 485.31,70
3D body: height 12.48, standoff -2.48, extent 470.44,13.51 485.31,28.24
3D body: height 12.48, standoff -2.48, extent 470.44,180.54 485.31,195.28
3D body: height 12.48, standoff -2.48, extent 470.44,222.3 485.31,237.03
3D body: height 12.48, standoff -2.48, extent 470.44,264.06 485.31,278.79
3D body: height 12.48, standoff -2.48, extent 470.44,431.09 485.31,445.83
3D body: height 12.48, standoff -2.48, extent 470.44,389.33 485.31,404.07
3D body: height 12.48, standoff -2.48, extent 470.44,347.58 485.31,362.31
3D body: height 12.48, standoff -2.48, extent 470.44,305.82 485.31,320.55
3D body: height 12.48, standoff -2.48, extent 491.32,-424.95 506.19,-410.22
3D body: height 12.48, standoff -2.48, extent 491.32,-466.71 506.19,-451.98
3D body: height 12.48, standoff -2.48, extent 491.32,-383.19 506.19,-368.46
3D body: height 12.48, standoff -2.48, extent 491.32,-341.43 506.19,-326.7
3D body: height 12.48, standoff -2.48, extent 491.32,-299.68 506.19,-284.94
3D body: height 12.48, standoff -2.48, extent 491.32,-132.64 506.19,-117.91
3D body: height 12.48, standoff -2.48, extent 491.32,-174.4 506.19,-159.67
3D body: height 12.48, standoff -2.48, extent 491.32,-216.16 506.19,-201.43
3D body: height 12.48, standoff -2.48, extent 491.32,-257.92 506.19,-243.19
3D body: height 12.48, standoff -2.48, extent 491.32,-90.89 506.19,-76.15
3D body: height 12.48, standoff -2.48, extent 491.32,-49.13 506.19,-34.39
3D body: height 12.48, standoff -2.48, extent 491.32,-7.37 506.19,7.36
3D body: height 12.48, standoff -2.48, extent 491.32,159.66 506.19,174.4
3D body: height 12.48, standoff -2.48, extent 491.32,117.91 506.19,132.64
3D body: height 12.48, standoff -2.48, extent 491.32,76.15 506.19,90.88
3D body: height 12.48, standoff -2.48, extent 491.32,34.39 506.19,49.12
3D body: height 12.48, standoff -2.48, extent 491.32,201.42 506.19,216.16
3D body: height 12.48, standoff -2.48, extent 491.32,243.18 506.19,257.91
3D body: height 12.48, standoff -2.48, extent 491.32,284.94 506.19,299.67
3D body: height 12.48, standoff -2.48, extent 491.32,451.97 506.19,466.7
3D body: height 12.48, standoff -2.48, extent 491.32,410.21 506.19,424.95
3D body: height 12.48, standoff -2.48, extent 491.32,368.46 506.19,383.19
3D body: height 12.48, standoff -2.48, extent 491.32,326.7 506.19,341.43
3D body: height 12.48, standoff -2.48, extent 512.2,-404.07 527.07,-389.34
3D body: height 12.48, standoff -2.48, extent 512.2,-445.83 527.07,-431.1
3D body: height 12.48, standoff -2.48, extent 512.2,-487.59 527.07,-472.86
3D body: height 12.48, standoff -2.48, extent 512.2,-362.31 527.07,-347.58
3D body: height 12.48, standoff -2.48, extent 512.2,-320.56 527.07,-305.82
3D body: height 12.48, standoff -2.48, extent 512.2,-278.8 527.07,-264.06
3D body: height 12.48, standoff -2.48, extent 512.2,-111.76 527.07,-97.03
3D body: height 12.48, standoff -2.48, extent 512.2,-153.52 527.07,-138.79
3D body: height 12.48, standoff -2.48, extent 512.2,-195.28 527.07,-180.55
3D body: height 12.48, standoff -2.48, extent 512.2,-237.04 527.07,-222.31
3D body: height 12.48, standoff -2.48, extent 512.2,-70.01 527.07,-55.27
3D body: height 12.48, standoff -2.48, extent 512.2,-28.25 527.07,-13.51
3D body: height 12.48, standoff -2.48, extent 512.2,13.51 527.07,28.24
3D body: height 12.48, standoff -2.48, extent 512.2,180.54 527.07,195.28
3D body: height 12.48, standoff -2.48, extent 512.2,138.79 527.07,153.52
3D body: height 12.48, standoff -2.48, extent 512.2,97.03 527.07,111.76
3D body: height 12.48, standoff -2.48, extent 512.2,55.27 527.07,70
3D body: height 12.48, standoff -2.48, extent 512.2,222.3 527.07,237.03
3D body: height 12.48, standoff -2.48, extent 512.2,264.06 527.07,278.79
3D body: height 12.48, standoff -2.48, extent 512.2,305.82 527.07,320.55
3D body: height 12.48, standoff -2.48, extent 512.2,472.85 527.07,487.58
3D body: height 12.48, standoff -2.48, extent 512.2,431.09 527.07,445.83
3D body: height 12.48, standoff -2.48, extent 512.2,389.33 527.07,404.07
3D body: height 12.48, standoff -2.48, extent 512.2,347.58 527.07,362.31
3D body: height 12.48, standoff -2.48, extent 533.08,-383.19 547.95,-368.46
3D body: height 12.48, standoff -2.48, extent 533.08,-424.95 547.95,-410.22
3D body: height 12.48, standoff -2.48, extent 533.08,-466.71 547.95,-451.98
3D body: height 12.48, standoff -2.48, extent 533.08,-508.47 547.95,-493.73
3D body: height 12.48, standoff -2.48, extent 533.08,-341.43 547.95,-326.7
3D body: height 12.48, standoff -2.48, extent 533.08,-299.68 547.95,-284.94
3D body: height 12.48, standoff -2.48, extent 533.08,-257.92 547.95,-243.19
3D body: height 12.48, standoff -2.48, extent 533.08,-90.89 547.95,-76.15
3D body: height 12.48, standoff -2.48, extent 533.08,-132.64 547.95,-117.91
3D body: height 12.48, standoff -2.48, extent 533.08,-174.4 547.95,-159.67
3D body: height 12.48, standoff -2.48, extent 533.08,-216.16 547.95,-201.43
3D body: height 12.48, standoff -2.48, extent 533.08,-49.13 547.95,-34.39
3D body: height 12.48, standoff -2.48, extent 533.08,-7.37 547.95,7.36
3D body: height 12.48, standoff -2.48, extent 533.08,34.39 547.95,49.12
3D body: height 12.48, standoff -2.48, extent 533.08,201.42 547.95,216.16
3D body: height 12.48, standoff -2.48, extent 533.08,159.66 547.95,174.4
3D body: height 12.48, standoff -2.48, extent 533.08,117.91 547.95,132.64
3D body: height 12.48, standoff -2.48, extent 533.08,76.15 547.95,90.88
3D body: height 12.48, standoff -2.48, extent 533.08,243.18 547.95,257.91
3D body: height 12.48, standoff -2.48, extent 533.08,284.94 547.95,299.67
3D body: height 12.48, standoff -2.48, extent 533.08,326.7 547.95,341.43
3D body: height 12.48, standoff -2.48, extent 533.08,493.73 547.95,508.46
3D body: height 12.48, standoff -2.48, extent 533.08,451.97 547.95,466.7
3D body: height 12.48, standoff -2.48, extent 533.08,410.21 547.95,424.95
3D body: height 12.48, standoff -2.48, extent 533.08,368.46 547.95,383.19
3D body: height 12.48, standoff -2.48, extent -517.71,-517.83 -502.98,-502.96
3D body: height 12.48, standoff -2.48, extent -475.95,-476.07 -461.22,-461.2
3D body: height 12.48, standoff -2.48, extent -434.2,-434.31 -419.46,-419.44
3D body: height 12.48, standoff -2.48, extent -392.44,-392.55 -377.7,-377.68
3D body: height 12.48, standoff -2.48, extent -350.68,-350.79 -335.95,-335.92
3D body: height 12.48, standoff -2.48, extent -308.92,-309.04 -294.19,-294.16
3D body: height 12.48, standoff -2.48, extent -257.92,-297.4 -243.19,-282.53
3D body: height 12.48, standoff -2.48, extent -216.16,-297.4 -201.43,-282.53
3D body: height 12.48, standoff -2.48, extent -49.13,-297.4 -34.39,-282.53
3D body: height 12.48, standoff -2.48, extent -90.89,-297.4 -76.15,-282.53
3D body: height 12.48, standoff -2.48, extent -132.64,-297.4 -117.91,-282.53
3D body: height 12.48, standoff -2.48, extent -174.4,-297.4 -159.67,-282.53
3D body: height 12.48, standoff -2.48, extent -7.37,-297.4 7.36,-282.53
3D body: height 12.48, standoff -2.48, extent 34.39,-297.4 49.12,-282.53
3D body: height 12.48, standoff -2.48, extent 76.15,-297.4 90.88,-282.53
3D body: height 12.48, standoff -2.48, extent 243.18,-297.4 257.91,-282.53
3D body: height 12.48, standoff -2.48, extent 201.42,-297.4 216.16,-282.53
3D body: height 12.48, standoff -2.48, extent 159.66,-297.4 174.4,-282.53
3D body: height 12.48, standoff -2.48, extent 117.91,-297.4 132.64,-282.53
3D body: height 12.48, standoff -2.48, extent -278.8,-318.28 -264.06,-303.41
3D body: height 12.48, standoff -2.48, extent -237.04,-318.28 -222.31,-303.41
3D body: height 12.48, standoff -2.48, extent -195.28,-318.28 -180.55,-303.41
3D body: height 12.48, standoff -2.48, extent -28.25,-318.28 -13.51,-303.41
3D body: height 12.48, standoff -2.48, extent -70.01,-318.28 -55.27,-303.41
3D body: height 12.48, standoff -2.48, extent -111.76,-318.28 -97.03,-303.41
3D body: height 12.48, standoff -2.48, extent -153.52,-318.28 -138.79,-303.41
3D body: height 12.48, standoff -2.48, extent 13.51,-318.28 28.24,-303.41
3D body: height 12.48, standoff -2.48, extent 55.27,-318.28 70,-303.41
3D body: height 12.48, standoff -2.48, extent 97.03,-318.28 111.76,-303.41
3D body: height 12.48, standoff -2.48, extent 264.06,-318.28 278.79,-303.41
3D body: height 12.48, standoff -2.48, extent 222.3,-318.28 237.03,-303.41
3D body: height 12.48, standoff -2.48, extent 180.54,-318.28 195.28,-303.41
3D body: height 12.48, standoff -2.48, extent 138.79,-318.28 153.52,-303.41
3D body: height 12.48, standoff -2.48, extent -299.68,-339.16 -284.94,-324.29
3D body: height 12.48, standoff -2.48, extent -257.92,-339.16 -243.19,-324.29
3D body: height 12.48, standoff -2.48, extent -216.16,-339.16 -201.43,-324.29
3D body: height 12.48, standoff -2.48, extent -174.4,-339.16 -159.67,-324.29
3D body: height 12.48, standoff -2.48, extent -7.37,-339.16 7.36,-324.29
3D body: height 12.48, standoff -2.48, extent -49.13,-339.16 -34.39,-324.29
3D body: height 12.48, standoff -2.48, extent -90.89,-339.16 -76.15,-324.29
3D body: height 12.48, standoff -2.48, extent -132.64,-339.16 -117.91,-324.29
3D body: height 12.48, standoff -2.48, extent 34.39,-339.16 49.12,-324.29
3D body: height 12.48, standoff -2.48, extent 76.15,-339.16 90.88,-324.29
3D body: height 12.48, standoff -2.48, extent 117.91,-339.16 132.64,-324.29
3D body: height 12.48, standoff -2.48, extent 284.94,-339.16 299.67,-324.29
3D body: height 12.48, standoff -2.48, extent 243.18,-339.16 257.91,-324.29
3D body: height 12.48, standoff -2.48, extent 201.42,-339.16 216.16,-324.29
3D body: height 12.48, standoff -2.48, extent 159.66,-339.16 174.4,-324.29
3D body: height 12.48, standoff -2.48, extent -278.8,-360.04 -264.06,-345.17
3D body: height 12.48, standoff -2.48, extent -320.56,-360.04 -305.82,-345.17
3D body: height 12.48, standoff -2.48, extent -237.04,-360.04 -222.31,-345.17
3D body: height 12.48, standoff -2.48, extent -195.28,-360.04 -180.55,-345.17
3D body: height 12.48, standoff -2.48, extent -153.52,-360.04 -138.79,-345.17
3D body: height 12.48, standoff -2.48, extent 13.51,-360.04 28.24,-345.17
3D body: height 12.48, standoff -2.48, extent -28.25,-360.04 -13.51,-345.17
3D body: height 12.48, standoff -2.48, extent -70.01,-360.04 -55.27,-345.17
3D body: height 12.48, standoff -2.48, extent -111.76,-360.04 -97.03,-345.17
3D body: height 12.48, standoff -2.48, extent 55.27,-360.04 70,-345.17
3D body: height 12.48, standoff -2.48, extent 97.03,-360.04 111.76,-345.17
3D body: height 12.48, standoff -2.48, extent 138.79,-360.04 153.52,-345.17
3D body: height 12.48, standoff -2.48, extent 305.82,-360.04 320.55,-345.17
3D body: height 12.48, standoff -2.48, extent 264.06,-360.04 278.79,-345.17
3D body: height 12.48, standoff -2.48, extent 222.3,-360.04 237.03,-345.17
3D body: height 12.48, standoff -2.48, extent 180.54,-360.04 195.28,-345.17
3D body: height 12.48, standoff -2.48, extent -257.92,-380.92 -243.19,-366.05
3D body: height 12.48, standoff -2.48, extent -299.68,-380.92 -284.94,-366.05
3D body: height 12.48, standoff -2.48, extent -341.43,-380.92 -326.7,-366.05
3D body: height 12.48, standoff -2.48, extent -216.16,-380.92 -201.43,-366.05
3D body: height 12.48, standoff -2.48, extent -174.4,-380.92 -159.67,-366.05
3D body: height 12.48, standoff -2.48, extent -132.64,-380.92 -117.91,-366.05
3D body: height 12.48, standoff -2.48, extent 34.39,-380.92 49.12,-366.05
3D body: height 12.48, standoff -2.48, extent -7.37,-380.92 7.36,-366.05
3D body: height 12.48, standoff -2.48, extent -49.13,-380.92 -34.39,-366.05
3D body: height 12.48, standoff -2.48, extent -90.89,-380.92 -76.15,-366.05
3D body: height 12.48, standoff -2.48, extent 76.15,-380.92 90.88,-366.05
3D body: height 12.48, standoff -2.48, extent 117.91,-380.92 132.64,-366.05
3D body: height 12.48, standoff -2.48, extent 159.66,-380.92 174.4,-366.05
3D body: height 12.48, standoff -2.48, extent 326.7,-380.92 341.43,-366.05
3D body: height 12.48, standoff -2.48, extent 284.94,-380.92 299.67,-366.05
3D body: height 12.48, standoff -2.48, extent 243.18,-380.92 257.91,-366.05
3D body: height 12.48, standoff -2.48, extent 201.42,-380.92 216.16,-366.05
3D body: height 12.48, standoff -2.48, extent -237.04,-401.8 -222.31,-386.93
3D body: height 12.48, standoff -2.48, extent -278.8,-401.8 -264.06,-386.93
3D body: height 12.48, standoff -2.48, extent -320.56,-401.8 -305.82,-386.93
3D body: height 12.48, standoff -2.48, extent -362.31,-401.8 -347.58,-386.93
3D body: height 12.48, standoff -2.48, extent -195.28,-401.8 -180.55,-386.93
3D body: height 12.48, standoff -2.48, extent -153.52,-401.8 -138.79,-386.93
3D body: height 12.48, standoff -2.48, extent -111.76,-401.8 -97.03,-386.93
3D body: height 12.48, standoff -2.48, extent 55.27,-401.8 70,-386.93
3D body: height 12.48, standoff -2.48, extent 13.51,-401.8 28.24,-386.93
3D body: height 12.48, standoff -2.48, extent -28.25,-401.8 -13.51,-386.93
3D body: height 12.48, standoff -2.48, extent -70.01,-401.8 -55.27,-386.93
3D body: height 12.48, standoff -2.48, extent 97.03,-401.8 111.76,-386.93
3D body: height 12.48, standoff -2.48, extent 138.79,-401.8 153.52,-386.93
3D body: height 12.48, standoff -2.48, extent 180.54,-401.8 195.28,-386.93
3D body: height 12.48, standoff -2.48, extent 347.58,-401.8 362.31,-386.93
3D body: height 12.48, standoff -2.48, extent 305.82,-401.8 320.55,-386.93
3D body: height 12.48, standoff -2.48, extent 264.06,-401.8 278.79,-386.93
3D body: height 12.48, standoff -2.48, extent 222.3,-401.8 237.03,-386.93
3D body: height 12.48, standoff -2.48, extent -383.19,-422.68 -368.46,-407.81
3D body: height 12.48, standoff -2.48, extent -216.16,-422.68 -201.43,-407.81
3D body: height 12.48, standoff -2.48, extent -257.92,-422.68 -243.19,-407.81
3D body: height 12.48, standoff -2.48, extent -299.68,-422.68 -284.94,-407.81
3D body: height 12.48, standoff -2.48, extent -341.43,-422.68 -326.7,-407.81
3D body: height 12.48, standoff -2.48, extent -174.4,-422.68 -159.67,-407.81
3D body: height 12.48, standoff -2.48, extent -132.64,-422.68 -117.91,-407.81
3D body: height 12.48, standoff -2.48, extent -90.89,-422.68 -76.15,-407.81
3D body: height 12.48, standoff -2.48, extent 76.15,-422.68 90.88,-407.81
3D body: height 12.48, standoff -2.48, extent 34.39,-422.68 49.12,-407.81
3D body: height 12.48, standoff -2.48, extent -7.37,-422.68 7.36,-407.81
3D body: height 12.48, standoff -2.48, extent -49.13,-422.68 -34.39,-407.81
3D body: height 12.48, standoff -2.48, extent 117.91,-422.68 132.64,-407.81
3D body: height 12.48, standoff -2.48, extent 159.66,-422.68 174.4,-407.81
3D body: height 12.48, standoff -2.48, extent 201.42,-422.68 216.16,-407.81
3D body: height 12.48, standoff -2.48, extent 368.46,-422.68 383.19,-407.81
3D body: height 12.48, standoff -2.48, extent 326.7,-422.68 341.43,-407.81
3D body: height 12.48, standoff -2.48, extent 284.94,-422.68 299.67,-407.81
3D body: height 12.48, standoff -2.48, extent 243.18,-422.68 257.91,-407.81
3D body: height 12.48, standoff -2.48, extent -404.07,-443.56 -389.34,-428.69
3D body: height 12.48, standoff -2.48, extent -362.31,-443.56 -347.58,-428.69
3D body: height 12.48, standoff -2.48, extent -195.28,-443.56 -180.55,-428.69
3D body: height 12.48, standoff -2.48, extent -237.04,-443.56 -222.31,-428.69
3D body: height 12.48, standoff -2.48, extent -278.8,-443.56 -264.06,-428.69
3D body: height 12.48, standoff -2.48, extent -320.56,-443.56 -305.82,-428.69
3D body: height 12.48, standoff -2.48, extent -153.52,-443.56 -138.79,-428.69
3D body: height 12.48, standoff -2.48, extent -111.76,-443.56 -97.03,-428.69
3D body: height 12.48, standoff -2.48, extent -70.01,-443.56 -55.27,-428.69
3D body: height 12.48, standoff -2.48, extent 97.03,-443.56 111.76,-428.69
3D body: height 12.48, standoff -2.48, extent 55.27,-443.56 70,-428.69
3D body: height 12.48, standoff -2.48, extent 13.51,-443.56 28.24,-428.69
3D body: height 12.48, standoff -2.48, extent -28.25,-443.56 -13.51,-428.69
3D body: height 12.48, standoff -2.48, extent 138.79,-443.56 153.52,-428.69
3D body: height 12.48, standoff -2.48, extent 180.54,-443.56 195.28,-428.69
3D body: height 12.48, standoff -2.48, extent 222.3,-443.56 237.03,-428.69
3D body: height 12.48, standoff -2.48, extent 389.33,-443.56 404.07,-428.69
3D body: height 12.48, standoff -2.48, extent 347.58,-443.56 362.31,-428.69
3D body: height 12.48, standoff -2.48, extent 305.82,-443.56 320.55,-428.69
3D body: height 12.48, standoff -2.48, extent 264.06,-443.56 278.79,-428.69
3D body: height 12.48, standoff -2.48, extent -424.95,-464.43 -410.22,-449.56
3D body: height 12.48, standoff -2.48, extent -383.19,-464.43 -368.46,-449.56
3D body: height 12.48, standoff -2.48, extent -341.43,-464.43 -326.7,-449.56
3D body: height 12.48, standoff -2.48, extent -174.4,-464.43 -159.67,-449.56
3D body: height 12.48, standoff -2.48, extent -216.16,-464.43 -201.43,-449.56
3D body: height 12.48, standoff -2.48, extent -257.92,-464.43 -243.19,-449.56
3D body: height 12.48, standoff -2.48, extent -299.68,-464.43 -284.94,-449.56
3D body: height 12.48, standoff -2.48, extent -132.64,-464.43 -117.91,-449.56
3D body: height 12.48, standoff -2.48, extent -90.89,-464.43 -76.15,-449.56
3D body: height 12.48, standoff -2.48, extent -49.13,-464.43 -34.39,-449.56
3D body: height 12.48, standoff -2.48, extent 117.91,-464.43 132.64,-449.56
3D body: height 12.48, standoff -2.48, extent 76.15,-464.43 90.88,-449.56
3D body: height 12.48, standoff -2.48, extent 34.39,-464.43 49.12,-449.56
3D body: height 12.48, standoff -2.48, extent -7.37,-464.43 7.36,-449.56
3D body: height 12.48, standoff -2.48, extent 159.66,-464.43 174.4,-449.56
3D body: height 12.48, standoff -2.48, extent 201.42,-464.43 216.16,-449.56
3D body: height 12.48, standoff -2.48, extent 243.18,-464.43 257.91,-449.56
3D body: height 12.48, standoff -2.48, extent 410.21,-464.43 424.95,-449.56
3D body: height 12.48, standoff -2.48, extent 368.46,-464.43 383.19,-449.56
3D body: height 12.48, standoff -2.48, extent 326.7,-464.43 341.43,-449.56
3D body: height 12.48, standoff -2.48, extent 284.94,-464.43 299.67,-449.56
3D body: height 12.48, standoff -2.48, extent -445.83,-485.31 -431.1,-470.44
3D body: height 12.48, standoff -2.48, extent -404.07,-485.31 -389.34,-470.44
3D body: height 12.48, standoff -2.48, extent -362.31,-485.31 -347.58,-470.44
3D body: height 12.48, standoff -2.48, extent -320.56,-485.31 -305.82,-470.44
3D body: height 12.48, standoff -2.48, extent -153.52,-485.31 -138.79,-470.44
3D body: height 12.48, standoff -2.48, extent -195.28,-485.31 -180.55,-470.44
3D body: height 12.48, standoff -2.48, extent -237.04,-485.31 -222.31,-470.44
3D body: height 12.48, standoff -2.48, extent -278.8,-485.31 -264.06,-470.44
3D body: height 12.48, standoff -2.48, extent -111.76,-485.31 -97.03,-470.44
3D body: height 12.48, standoff -2.48, extent -70.01,-485.31 -55.27,-470.44
3D body: height 12.48, standoff -2.48, extent -28.25,-485.31 -13.51,-470.44
3D body: height 12.48, standoff -2.48, extent 138.79,-485.31 153.52,-470.44
3D body: height 12.48, standoff -2.48, extent 97.03,-485.31 111.76,-470.44
3D body: height 12.48, standoff -2.48, extent 55.27,-485.31 70,-470.44
3D body: height 12.48, standoff -2.48, extent 13.51,-485.31 28.24,-470.44
3D body: height 12.48, standoff -2.48, extent 180.54,-485.31 195.28,-470.44
3D body: height 12.48, standoff -2.48, extent 222.3,-485.31 237.03,-470.44
3D body: height 12.48, standoff -2.48, extent 264.06,-485.31 278.79,-470.44
3D body: height 12.48, standoff -2.48, extent 431.09,-485.31 445.83,-470.44
3D body: height 12.48, standoff -2.48, extent 389.33,-485.31 404.07,-470.44
3D body: height 12.48, standoff -2.48, extent 347.58,-485.31 362.31,-470.44
3D body: height 12.48, standoff -2.48, extent 305.82,-485.31 320.55,-470.44
3D body: height 12.48, standoff -2.48, extent -424.95,-506.19 -410.22,-491.32
3D body: height 12.48, standoff -2.48, extent -466.71,-506.19 -451.98,-491.32
3D body: height 12.48, standoff -2.48, extent -383.19,-506.19 -368.46,-491.32
3D body: height 12.48, standoff -2.48, extent -341.43,-506.19 -326.7,-491.32
3D body: height 12.48, standoff -2.48, extent -299.68,-506.19 -284.94,-491.32
3D body: height 12.48, standoff -2.48, extent -132.64,-506.19 -117.91,-491.32
3D body: height 12.48, standoff -2.48, extent -174.4,-506.19 -159.67,-491.32
3D body: height 12.48, standoff -2.48, extent -216.16,-506.19 -201.43,-491.32
3D body: height 12.48, standoff -2.48, extent -257.92,-506.19 -243.19,-491.32
3D body: height 12.48, standoff -2.48, extent -90.89,-506.19 -76.15,-491.32
3D body: height 12.48, standoff -2.48, extent -49.13,-506.19 -34.39,-491.32
3D body: height 12.48, standoff -2.48, extent -7.37,-506.19 7.36,-491.32
3D body: height 12.48, standoff -2.48, extent 159.66,-506.19 174.4,-491.32
3D body: height 12.48, standoff -2.48, extent 117.91,-506.19 132.64,-491.32
3D body: height 12.48, standoff -2.48, extent 76.15,-506.19 90.88,-491.32
3D body: height 12.48, standoff -2.48, extent 34.39,-506.19 49.12,-491.32
3D body: height 12.48, standoff -2.48, extent 201.42,-506.19 216.16,-491.32
3D body: height 12.48, standoff -2.48, extent 243.18,-506.19 257.91,-491.32
3D body: height 12.48, standoff -2.48, extent 284.94,-506.19 299.67,-491.32
3D body: height 12.48, standoff -2.48, extent 451.97,-506.19 466.7,-491.32
3D body: height 12.48, standoff -2.48, extent 410.21,-506.19 424.95,-491.32
3D body: height 12.48, standoff -2.48, extent 368.46,-506.19 383.19,-491.32
3D body: height 12.48, standoff -2.48, extent 326.7,-506.19 341.43,-491.32
3D body: height 12.48, standoff -2.48, extent -404.07,-527.07 -389.34,-512.2
3D body: height 12.48, standoff -2.48, extent -445.83,-527.07 -431.1,-512.2
3D body: height 12.48, standoff -2.48, extent -487.59,-527.07 -472.86,-512.2
3D body: height 12.48, standoff -2.48, extent -362.31,-527.07 -347.58,-512.2
3D body: height 12.48, standoff -2.48, extent -320.56,-527.07 -305.82,-512.2
3D body: height 12.48, standoff -2.48, extent -278.8,-527.07 -264.06,-512.2
3D body: height 12.48, standoff -2.48, extent -111.76,-527.07 -97.03,-512.2
3D body: height 12.48, standoff -2.48, extent -153.52,-527.07 -138.79,-512.2
3D body: height 12.48, standoff -2.48, extent -195.28,-527.07 -180.55,-512.2
3D body: height 12.48, standoff -2.48, extent -237.04,-527.07 -222.31,-512.2
3D body: height 12.48, standoff -2.48, extent -70.01,-527.07 -55.27,-512.2
3D body: height 12.48, standoff -2.48, extent -28.25,-527.07 -13.51,-512.2
3D body: height 12.48, standoff -2.48, extent 13.51,-527.07 28.24,-512.2
3D body: height 12.48, standoff -2.48, extent 180.54,-527.07 195.28,-512.2
3D body: height 12.48, standoff -2.48, extent 138.79,-527.07 153.52,-512.2
3D body: height 12.48, standoff -2.48, extent 97.03,-527.07 111.76,-512.2
3D body: height 12.48, standoff -2.48, extent 55.27,-527.07 70,-512.2
3D body: height 12.48, standoff -2.48, extent 222.3,-527.07 237.03,-512.2
3D body: height 12.48, standoff -2.48, extent 264.06,-527.07 278.79,-512.2
3D body: height 12.48, standoff -2.48, extent 305.82,-527.07 320.55,-512.2
3D body: height 12.48, standoff -2.48, extent 472.85,-527.07 487.58,-512.2
3D body: height 12.48, standoff -2.48, extent 431.09,-527.07 445.83,-512.2
3D body: height 12.48, standoff -2.48, extent 389.33,-527.07 404.07,-512.2
3D body: height 12.48, standoff -2.48, extent 347.58,-527.07 362.31,-512.2
3D body: height 12.48, standoff -2.48, extent -383.19,-547.95 -368.46,-533.08
3D body: height 12.48, standoff -2.48, extent -424.95,-547.95 -410.22,-533.08
3D body: height 12.48, standoff -2.48, extent -466.71,-547.95 -451.98,-533.08
3D body: height 12.48, standoff -2.48, extent -508.47,-547.95 -493.73,-533.08
3D body: height 12.48, standoff -2.48, extent -341.43,-547.95 -326.7,-533.08
3D body: height 12.48, standoff -2.48, extent -299.68,-547.95 -284.94,-533.08
3D body: height 12.48, standoff -2.48, extent -257.92,-547.95 -243.19,-533.08
3D body: height 12.48, standoff -2.48, extent -90.89,-547.95 -76.15,-533.08
3D body: height 12.48, standoff -2.48, extent -132.64,-547.95 -117.91,-533.08
3D body: height 12.48, standoff -2.48, extent -174.4,-547.95 -159.67,-533.08
3D body: height 12.48, standoff -2.48, extent -216.16,-547.95 -201.43,-533.08
3D body: height 12.48, standoff -2.48, extent -49.13,-547.95 -34.39,-533.08
3D body: height 12.48, standoff -2.48, extent -7.37,-547.95 7.36,-533.08
3D body: height 12.48, standoff -2.48, extent 34.39,-547.95 49.12,-533.08
3D body: height 12.48, standoff -2.48, extent 201.42,-547.95 216.16,-533.08
3D body: height 12.48, standoff -2.48, extent 159.66,-547.95 174.4,-533.08
3D body: height 12.48, standoff -2.48, extent 117.91,-547.95 132.64,-533.08
3D body: height 12.48, standoff -2.48, extent 76.15,-547.95 90.88,-533.08
3D body: height 12.48, standoff -2.48, extent 243.18,-547.95 257.91,-533.08
3D body: height 12.48, standoff -2.48, extent 284.94,-547.95 299.67,-533.08
3D body: height 12.48, standoff -2.48, extent 326.7,-547.95 341.43,-533.08
3D body: height 12.48, standoff -2.48, extent 493.73,-547.95 508.46,-533.08
3D body: height 12.48, standoff -2.48, extent 451.97,-547.95 466.7,-533.08
3D body: height 12.48, standoff -2.48, extent 410.21,-547.95 424.95,-533.08
3D body: height 12.48, standoff -2.48, extent 368.46,-547.95 383.19,-533.08
3D body: height 12.48, standoff -2.48, extent -517.83,502.98 -502.96,517.71
3D body: height 12.48, standoff -2.48, extent -476.07,461.22 -461.2,475.95
3D body: height 12.48, standoff -2.48, extent -434.31,419.46 -419.44,434.2
3D body: height 12.48, standoff -2.48, extent -392.55,377.7 -377.68,392.44
3D body: height 12.48, standoff -2.48, extent -350.79,335.95 -335.92,350.68
3D body: height 12.48, standoff -2.48, extent -309.04,294.19 -294.16,308.92
3D body: height 12.48, standoff -2.48, extent -297.4,34.39 -282.53,49.13
3D body: height 12.48, standoff -2.48, extent -297.4,76.15 -282.53,90.89
3D body: height 12.48, standoff -2.48, extent -297.4,117.91 -282.53,132.64
3D body: height 12.48, standoff -2.48, extent -297.4,-7.36 -282.53,7.37
3D body: height 12.48, standoff -2.48, extent -297.4,-49.12 -282.53,-34.39
3D body: height 12.48, standoff -2.48, extent -297.4,-90.88 -282.53,-76.15
3D body: height 12.48, standoff -2.48, extent -297.4,-132.64 -282.53,-117.91
3D body: height 12.48, standoff -2.48, extent -318.28,264.06 -303.41,278.8
3D body: height 12.48, standoff -2.48, extent -318.28,222.31 -303.41,237.04
3D body: height 12.48, standoff -2.48, extent -318.28,180.55 -303.41,195.28
3D body: height 12.48, standoff -2.48, extent -318.28,13.51 -303.41,28.25
3D body: height 12.48, standoff -2.48, extent -318.28,55.27 -303.41,70.01
3D body: height 12.48, standoff -2.48, extent -318.28,97.03 -303.41,111.76
3D body: height 12.48, standoff -2.48, extent -318.28,138.79 -303.41,153.52
3D body: height 12.48, standoff -2.48, extent -318.28,-28.24 -303.41,-13.51
3D body: height 12.48, standoff -2.48, extent -318.28,-70 -303.41,-55.27
3D body: height 12.48, standoff -2.48, extent -318.28,-111.76 -303.41,-97.03
3D body: height 12.48, standoff -2.48, extent -318.28,-278.79 -303.41,-264.06
3D body: height 12.48, standoff -2.48, extent -318.28,-237.03 -303.41,-222.3
3D body: height 12.48, standoff -2.48, extent -318.28,-195.28 -303.41,-180.54
3D body: height 12.48, standoff -2.48, extent -318.28,-153.52 -303.41,-138.79
3D body: height 12.48, standoff -2.48, extent -339.16,284.94 -324.29,299.68
3D body: height 12.48, standoff -2.48, extent -339.16,243.19 -324.29,257.92
3D body: height 12.48, standoff -2.48, extent -339.16,201.43 -324.29,216.16
3D body: height 12.48, standoff -2.48, extent -339.16,159.67 -324.29,174.4
3D body: height 12.48, standoff -2.48, extent -339.16,-7.36 -324.29,7.37
3D body: height 12.48, standoff -2.48, extent -339.16,34.39 -324.29,49.13
3D body: height 12.48, standoff -2.48, extent -339.16,76.15 -324.29,90.89
3D body: height 12.48, standoff -2.48, extent -339.16,117.91 -324.29,132.64
3D body: height 12.48, standoff -2.48, extent -339.16,-49.12 -324.29,-34.39
3D body: height 12.48, standoff -2.48, extent -339.16,-90.88 -324.29,-76.15
3D body: height 12.48, standoff -2.48, extent -339.16,-132.64 -324.29,-117.91
3D body: height 12.48, standoff -2.48, extent -339.16,-299.67 -324.29,-284.94
3D body: height 12.48, standoff -2.48, extent -339.16,-257.91 -324.29,-243.18
3D body: height 12.48, standoff -2.48, extent -339.16,-216.16 -324.29,-201.42
3D body: height 12.48, standoff -2.48, extent -339.16,-174.4 -324.29,-159.66
3D body: height 12.48, standoff -2.48, extent -360.04,264.06 -345.17,278.8
3D body: height 12.48, standoff -2.48, extent -360.04,305.82 -345.17,320.56
3D body: height 12.48, standoff -2.48, extent -360.04,222.31 -345.17,237.04
3D body: height 12.48, standoff -2.48, extent -360.04,180.55 -345.17,195.28
3D body: height 12.48, standoff -2.48, extent -360.04,138.79 -345.17,153.52
3D body: height 12.48, standoff -2.48, extent -360.04,-28.24 -345.17,-13.51
3D body: height 12.48, standoff -2.48, extent -360.04,13.51 -345.17,28.25
3D body: height 12.48, standoff -2.48, extent -360.04,55.27 -345.17,70.01
3D body: height 12.48, standoff -2.48, extent -360.04,97.03 -345.17,111.76
3D body: height 12.48, standoff -2.48, extent -360.04,-70 -345.17,-55.27
3D body: height 12.48, standoff -2.48, extent -360.04,-111.76 -345.17,-97.03
3D body: height 12.48, standoff -2.48, extent -360.04,-153.52 -345.17,-138.79
3D body: height 12.48, standoff -2.48, extent -360.04,-320.55 -345.17,-305.82
3D body: height 12.48, standoff -2.48, extent -360.04,-278.79 -345.17,-264.06
3D body: height 12.48, standoff -2.48, extent -360.04,-237.03 -345.17,-222.3
3D body: height 12.48, standoff -2.48, extent -360.04,-195.28 -345.17,-180.54
3D body: height 12.48, standoff -2.48, extent -380.92,243.19 -366.05,257.92
3D body: height 12.48, standoff -2.48, extent -380.92,284.94 -366.05,299.68
3D body: height 12.48, standoff -2.48, extent -380.92,326.7 -366.05,341.43
3D body: height 12.48, standoff -2.48, extent -380.92,201.43 -366.05,216.16
3D body: height 12.48, standoff -2.48, extent -380.92,159.67 -366.05,174.4
3D body: height 12.48, standoff -2.48, extent -380.92,117.91 -366.05,132.64
3D body: height 12.48, standoff -2.48, extent -380.92,-49.12 -366.05,-34.39
3D body: height 12.48, standoff -2.48, extent -380.92,-7.36 -366.05,7.37
3D body: height 12.48, standoff -2.48, extent -380.92,34.39 -366.05,49.13
3D body: height 12.48, standoff -2.48, extent -380.92,76.15 -366.05,90.89
3D body: height 12.48, standoff -2.48, extent -380.92,-90.88 -366.05,-76.15
3D body: height 12.48, standoff -2.48, extent -380.92,-132.64 -366.05,-117.91
3D body: height 12.48, standoff -2.48, extent -380.92,-174.4 -366.05,-159.66
3D body: height 12.48, standoff -2.48, extent -380.92,-341.43 -366.05,-326.7
3D body: height 12.48, standoff -2.48, extent -380.92,-299.67 -366.05,-284.94
3D body: height 12.48, standoff -2.48, extent -380.92,-257.91 -366.05,-243.18
3D body: height 12.48, standoff -2.48, extent -380.92,-216.16 -366.05,-201.42
3D body: height 12.48, standoff -2.48, extent -401.8,222.31 -386.93,237.04
3D body: height 12.48, standoff -2.48, extent -401.8,264.06 -386.93,278.8
3D body: height 12.48, standoff -2.48, extent -401.8,305.82 -386.93,320.56
3D body: height 12.48, standoff -2.48, extent -401.8,347.58 -386.93,362.31
3D body: height 12.48, standoff -2.48, extent -401.8,180.55 -386.93,195.28
3D body: height 12.48, standoff -2.48, extent -401.8,138.79 -386.93,153.52
3D body: height 12.48, standoff -2.48, extent -401.8,97.03 -386.93,111.76
3D body: height 12.48, standoff -2.48, extent -401.8,-70 -386.93,-55.27
3D body: height 12.48, standoff -2.48, extent -401.8,-28.24 -386.93,-13.51
3D body: height 12.48, standoff -2.48, extent -401.8,13.51 -386.93,28.25
3D body: height 12.48, standoff -2.48, extent -401.8,55.27 -386.93,70.01
3D body: height 12.48, standoff -2.48, extent -401.8,-111.76 -386.93,-97.03
3D body: height 12.48, standoff -2.48, extent -401.8,-153.52 -386.93,-138.79
3D body: height 12.48, standoff -2.48, extent -401.8,-195.28 -386.93,-180.54
3D body: height 12.48, standoff -2.48, extent -401.8,-362.31 -386.93,-347.58
3D body: height 12.48, standoff -2.48, extent -401.8,-320.55 -386.93,-305.82
3D body: height 12.48, standoff -2.48, extent -401.8,-278.79 -386.93,-264.06
3D body: height 12.48, standoff -2.48, extent -401.8,-237.03 -386.93,-222.3
3D body: height 12.48, standoff -2.48, extent -422.68,368.46 -407.81,383.19
3D body: height 12.48, standoff -2.48, extent -422.68,201.43 -407.81,216.16
3D body: height 12.48, standoff -2.48, extent -422.68,243.19 -407.81,257.92
3D body: height 12.48, standoff -2.48, extent -422.68,284.94 -407.81,299.68
3D body: height 12.48, standoff -2.48, extent -422.68,326.7 -407.81,341.43
3D body: height 12.48, standoff -2.48, extent -422.68,159.67 -407.81,174.4
3D body: height 12.48, standoff -2.48, extent -422.68,117.91 -407.81,132.64
3D body: height 12.48, standoff -2.48, extent -422.68,76.15 -407.81,90.89
3D body: height 12.48, standoff -2.48, extent -422.68,-90.88 -407.81,-76.15
3D body: height 12.48, standoff -2.48, extent -422.68,-49.12 -407.81,-34.39
3D body: height 12.48, standoff -2.48, extent -422.68,-7.36 -407.81,7.37
3D body: height 12.48, standoff -2.48, extent -422.68,34.39 -407.81,49.13
3D body: height 12.48, standoff -2.48, extent -422.68,-132.64 -407.81,-117.91
3D body: height 12.48, standoff -2.48, extent -422.68,-174.4 -407.81,-159.66
3D body: height 12.48, standoff -2.48, extent -422.68,-216.16 -407.81,-201.42
3D body: height 12.48, standoff -2.48, extent -422.68,-383.19 -407.81,-368.46
3D body: height 12.48, standoff -2.48, extent -422.68,-341.43 -407.81,-326.7
3D body: height 12.48, standoff -2.48, extent -422.68,-299.67 -407.81,-284.94
3D body: height 12.48, standoff -2.48, extent -422.68,-257.91 -407.81,-243.18
3D body: height 12.48, standoff -2.48, extent -443.56,389.34 -428.69,404.07
3D body: height 12.48, standoff -2.48, extent -443.56,347.58 -428.69,362.31
3D body: height 12.48, standoff -2.48, extent -443.56,180.55 -428.69,195.28
3D body: height 12.48, standoff -2.48, extent -443.56,222.31 -428.69,237.04
3D body: height 12.48, standoff -2.48, extent -443.56,264.06 -428.69,278.8
3D body: height 12.48, standoff -2.48, extent -443.56,305.82 -428.69,320.56
3D body: height 12.48, standoff -2.48, extent -443.56,138.79 -428.69,153.52
3D body: height 12.48, standoff -2.48, extent -443.56,97.03 -428.69,111.76
3D body: height 12.48, standoff -2.48, extent -443.56,55.27 -428.69,70.01
3D body: height 12.48, standoff -2.48, extent -443.56,-111.76 -428.69,-97.03
3D body: height 12.48, standoff -2.48, extent -443.56,-70 -428.69,-55.27
3D body: height 12.48, standoff -2.48, extent -443.56,-28.24 -428.69,-13.51
3D body: height 12.48, standoff -2.48, extent -443.56,13.51 -428.69,28.25
3D body: height 12.48, standoff -2.48, extent -443.56,-153.52 -428.69,-138.79
3D body: height 12.48, standoff -2.48, extent -443.56,-195.28 -428.69,-180.54
3D body: height 12.48, standoff -2.48, extent -443.56,-237.03 -428.69,-222.3
3D body: height 12.48, standoff -2.48, extent -443.56,-404.07 -428.69,-389.33
3D body: height 12.48, standoff -2.48, extent -443.56,-362.31 -428.69,-347.58
3D body: height 12.48, standoff -2.48, extent -443.56,-320.55 -428.69,-305.82
3D body: height 12.48, standoff -2.48, extent -443.56,-278.79 -428.69,-264.06
3D body: height 12.48, standoff -2.48, extent -464.43,410.22 -449.56,424.95
3D body: height 12.48, standoff -2.48, extent -464.43,368.46 -449.56,383.19
3D body: height 12.48, standoff -2.48, extent -464.43,326.7 -449.56,341.43
3D body: height 12.48, standoff -2.48, extent -464.43,159.67 -449.56,174.4
3D body: height 12.48, standoff -2.48, extent -464.43,201.43 -449.56,216.16
3D body: height 12.48, standoff -2.48, extent -464.43,243.19 -449.56,257.92
3D body: height 12.48, standoff -2.48, extent -464.43,284.94 -449.56,299.68
3D body: height 12.48, standoff -2.48, extent -464.43,117.91 -449.56,132.64
3D body: height 12.48, standoff -2.48, extent -464.43,76.15 -449.56,90.89
3D body: height 12.48, standoff -2.48, extent -464.43,34.39 -449.56,49.13
3D body: height 12.48, standoff -2.48, extent -464.43,-132.64 -449.56,-117.91
3D body: height 12.48, standoff -2.48, extent -464.43,-90.88 -449.56,-76.15
3D body: height 12.48, standoff -2.48, extent -464.43,-49.12 -449.56,-34.39
3D body: height 12.48, standoff -2.48, extent -464.43,-7.36 -449.56,7.37
3D body: height 12.48, standoff -2.48, extent -464.43,-174.4 -449.56,-159.66
3D body: height 12.48, standoff -2.48, extent -464.43,-216.16 -449.56,-201.42
3D body: height 12.48, standoff -2.48, extent -464.43,-257.91 -449.56,-243.18
3D body: height 12.48, standoff -2.48, extent -464.43,-424.95 -449.56,-410.21
3D body: height 12.48, standoff -2.48, extent -464.43,-383.19 -449.56,-368.46
3D body: height 12.48, standoff -2.48, extent -464.43,-341.43 -449.56,-326.7
3D body: height 12.48, standoff -2.48, extent -464.43,-299.67 -449.56,-284.94
3D body: height 12.48, standoff -2.48, extent -485.31,431.1 -470.44,445.83
3D body: height 12.48, standoff -2.48, extent -485.31,389.34 -470.44,404.07
3D body: height 12.48, standoff -2.48, extent -485.31,347.58 -470.44,362.31
3D body: height 12.48, standoff -2.48, extent -485.31,305.82 -470.44,320.56
3D body: height 12.48, standoff -2.48, extent -485.31,138.79 -470.44,153.52
3D body: height 12.48, standoff -2.48, extent -485.31,180.55 -470.44,195.28
3D body: height 12.48, standoff -2.48, extent -485.31,222.31 -470.44,237.04
3D body: height 12.48, standoff -2.48, extent -485.31,264.06 -470.44,278.8
3D body: height 12.48, standoff -2.48, extent -485.31,97.03 -470.44,111.76
3D body: height 12.48, standoff -2.48, extent -485.31,55.27 -470.44,70.01
3D body: height 12.48, standoff -2.48, extent -485.31,13.51 -470.44,28.25
3D body: height 12.48, standoff -2.48, extent -485.31,-153.52 -470.44,-138.79
3D body: height 12.48, standoff -2.48, extent -485.31,-111.76 -470.44,-97.03
3D body: height 12.48, standoff -2.48, extent -485.31,-70 -470.44,-55.27
3D body: height 12.48, standoff -2.48, extent -485.31,-28.24 -470.44,-13.51
3D body: height 12.48, standoff -2.48, extent -485.31,-195.28 -470.44,-180.54
3D body: height 12.48, standoff -2.48, extent -485.31,-237.03 -470.44,-222.3
3D body: height 12.48, standoff -2.48, extent -485.31,-278.79 -470.44,-264.06
3D body: height 12.48, standoff -2.48, extent -485.31,-445.83 -470.44,-431.09
3D body: height 12.48, standoff -2.48, extent -485.31,-404.07 -470.44,-389.33
3D body: height 12.48, standoff -2.48, extent -485.31,-362.31 -470.44,-347.58
3D body: height 12.48, standoff -2.48, extent -485.31,-320.55 -470.44,-305.82
3D body: height 12.48, standoff -2.48, extent -506.19,410.22 -491.32,424.95
3D body: height 12.48, standoff -2.48, extent -506.19,451.98 -491.32,466.71
3D body: height 12.48, standoff -2.48, extent -506.19,368.46 -491.32,383.19
3D body: height 12.48, standoff -2.48, extent -506.19,326.7 -491.32,341.43
3D body: height 12.48, standoff -2.48, extent -506.19,284.94 -491.32,299.68
3D body: height 12.48, standoff -2.48, extent -506.19,117.91 -491.32,132.64
3D body: height 12.48, standoff -2.48, extent -506.19,159.67 -491.32,174.4
3D body: height 12.48, standoff -2.48, extent -506.19,201.43 -491.32,216.16
3D body: height 12.48, standoff -2.48, extent -506.19,243.19 -491.32,257.92
3D body: height 12.48, standoff -2.48, extent -506.19,76.15 -491.32,90.89
3D body: height 12.48, standoff -2.48, extent -506.19,34.39 -491.32,49.13
3D body: height 12.48, standoff -2.48, extent -506.19,-7.36 -491.32,7.37
3D body: height 12.48, standoff -2.48, extent -506.19,-174.4 -491.32,-159.66
3D body: height 12.48, standoff -2.48, extent -506.19,-132.64 -491.32,-117.91
3D body: height 12.48, standoff -2.48, extent -506.19,-90.88 -491.32,-76.15
3D body: height 12.48, standoff -2.48, extent -506.19,-49.12 -491.32,-34.39
3D body: height 12.48, standoff -2.48, extent -506.19,-216.16 -491.32,-201.42
3D body: height 12.48, standoff -2.48, extent -506.19,-257.91 -491.32,-243.18
3D body: height 12.48, standoff -2.48, extent -506.19,-299.67 -491.32,-284.94
3D body: height 12.48, standoff -2.48, extent -506.19,-466.7 -491.32,-451.97
3D body: height 12.48, standoff -2.48, extent -506.19,-424.95 -491.32,-410.21
3D body: height 12.48, standoff -2.48, extent -506.19,-383.19 -491.32,-368.46
3D body: height 12.48, standoff -2.48, extent -506.19,-341.43 -491.32,-326.7
3D body: height 12.48, standoff -2.48, extent -527.07,389.34 -512.2,404.07
3D body: height 12.48, standoff -2.48, extent -527.07,431.1 -512.2,445.83
3D body: height 12.48, standoff -2.48, extent -527.07,472.86 -512.2,487.59
3D body: height 12.48, standoff -2.48, extent -527.07,347.58 -512.2,362.31
3D body: height 12.48, standoff -2.48, extent -527.07,305.82 -512.2,320.56
3D body: height 12.48, standoff -2.48, extent -527.07,264.06 -512.2,278.8
3D body: height 12.48, standoff -2.48, extent -527.07,97.03 -512.2,111.76
3D body: height 12.48, standoff -2.48, extent -527.07,138.79 -512.2,153.52
3D body: height 12.48, standoff -2.48, extent -527.07,180.55 -512.2,195.28
3D body: height 12.48, standoff -2.48, extent -527.07,222.31 -512.2,237.04
3D body: height 12.48, standoff -2.48, extent -527.07,55.27 -512.2,70.01
3D body: height 12.48, standoff -2.48, extent -527.07,13.51 -512.2,28.25
3D body: height 12.48, standoff -2.48, extent -527.07,-28.24 -512.2,-13.51
3D body: height 12.48, standoff -2.48, extent -527.07,-195.28 -512.2,-180.54
3D body: height 12.48, standoff -2.48, extent -527.07,-153.52 -512.2,-138.79
3D body: height 12.48, standoff -2.48, extent -527.07,-111.76 -512.2,-97.03
3D body: height 12.48, standoff -2.48, extent -527.07,-70 -512.2,-55.27
3D body: height 12.48, standoff -2.48, extent -527.07,-237.03 -512.2,-222.3
3D body: height 12.48, standoff -2.48, extent -527.07,-278.79 -512.2,-264.06
3D body: height 12.48, standoff -2.48, extent -527.07,-320.55 -512.2,-305.82
3D body: height 12.48, standoff -2.48, extent -527.07,-487.58 -512.2,-472.85
3D body: height 12.48, standoff -2.48, extent -527.07,-445.83 -512.2,-431.09
3D body: height 12.48, standoff -2.48, extent -527.07,-404.07 -512.2,-389.33
3D body: height 12.48, standoff -2.48, extent -527.07,-362.31 -512.2,-347.58
3D body: height 12.48, standoff -2.48, extent -547.95,368.46 -533.08,383.19
3D body: height 12.48, standoff -2.48, extent -547.95,410.22 -533.08,424.95
3D body: height 12.48, standoff -2.48, extent -547.95,451.98 -533.08,466.71
3D body: height 12.48, standoff -2.48, extent -547.95,493.73 -533.08,508.47
3D body: height 12.48, standoff -2.48, extent -547.95,326.7 -533.08,341.43
3D body: height 12.48, standoff -2.48, extent -547.95,284.94 -533.08,299.68
3D body: height 12.48, standoff -2.48, extent -547.95,243.19 -533.08,257.92
3D body: height 12.48, standoff -2.48, extent -547.95,76.15 -533.08,90.89
3D body: height 12.48, standoff -2.48, extent -547.95,117.91 -533.08,132.64
3D body: height 12.48, standoff -2.48, extent -547.95,159.67 -533.08,174.4
3D body: height 12.48, standoff -2.48, extent -547.95,201.43 -533.08,216.16
3D body: height 12.48, standoff -2.48, extent -547.95,34.39 -533.08,49.13
3D body: height 12.48, standoff -2.48, extent -547.95,-7.36 -533.08,7.37
3D body: height 12.48, standoff -2.48, extent -547.95,-49.12 -533.08,-34.39
3D body: height 12.48, standoff -2.48, extent -547.95,-216.16 -533.08,-201.42
3D body: height 12.48, standoff -2.48, extent -547.95,-174.4 -533.08,-159.66
3D body: height 12.48, standoff -2.48, extent -547.95,-132.64 -533.08,-117.91
3D body: height 12.48, standoff -2.48, extent -547.95,-90.88 -533.08,-76.15
3D body: height 12.48, standoff -2.48, extent -547.95,-257.91 -533.08,-243.18
3D body: height 12.48, standoff -2.48, extent -547.95,-299.67 -533.08,-284.94
3D body: height 12.48, standoff -2.48, extent -547.95,-341.43 -533.08,-326.7
3D body: height 12.48, standoff -2.48, extent -547.95,-508.46 -533.08,-493.73
3D body: height 12.48, standoff -2.48, extent -547.95,-466.7 -533.08,-451.97
3D body: height 12.48, standoff -2.48, extent -547.95,-424.95 -533.08,-410.21
3D body: height 12.48, standoff -2.48, extent -547.95,-383.19 -533.08,-368.46
3D body: height 12.48, standoff -2.48, extent 502.98,502.96 517.71,517.83
3D body: height 12.48, standoff -2.48, extent 461.22,461.2 475.95,476.07
3D body: height 12.48, standoff -2.48, extent 419.46,419.44 434.2,434.31
3D body: height 12.48, standoff -2.48, extent 377.7,377.68 392.44,392.55
3D body: height 12.48, standoff -2.48, extent 335.95,335.92 350.68,350.79
3D body: height 12.48, standoff -2.48, extent 294.19,294.16 308.92,309.04
3D body: height 12.48, standoff -2.48, extent 243.19,-257.94 257.92,-243.07
3D body: height 12.48, standoff -2.48, extent 201.43,-257.94 216.16,-243.07
3D body: height 12.48, standoff -2.48, extent 34.39,-257.94 49.13,-243.07
3D body: height 12.48, standoff -2.48, extent 76.15,-257.94 90.89,-243.07
3D body: height 12.48, standoff -2.48, extent 117.91,-257.94 132.64,-243.07
3D body: height 12.48, standoff -2.48, extent 159.67,-257.94 174.4,-243.07
3D body: height 12.48, standoff -2.48, extent -7.36,-257.94 7.37,-243.07
3D body: height 12.48, standoff -2.48, extent -49.12,-257.94 -34.39,-243.07
3D body: height 12.48, standoff -2.48, extent -90.88,-257.94 -76.15,-243.07
3D body: height 12.48, standoff -2.48, extent -257.91,-257.94 -243.18,-243.07
3D body: height 12.48, standoff -2.48, extent -216.16,-257.94 -201.42,-243.07
3D body: height 12.48, standoff -2.48, extent -174.4,-257.94 -159.66,-243.07
3D body: height 12.48, standoff -2.48, extent -132.64,-257.94 -117.91,-243.07
3D body: height 12.48, standoff -2.48, extent 222.31,-237.06 237.04,-222.19
3D body: height 12.48, standoff -2.48, extent 55.27,-237.06 70.01,-222.19
3D body: height 12.48, standoff -2.48, extent 97.03,-237.06 111.76,-222.19
3D body: height 12.48, standoff -2.48, extent 138.79,-237.06 153.52,-222.19
3D body: height 12.48, standoff -2.48, extent 180.55,-237.06 195.28,-222.19
3D body: height 12.48, standoff -2.48, extent 13.51,-237.06 28.25,-222.19
3D body: height 12.48, standoff -2.48, extent -28.24,-237.06 -13.51,-222.19
3D body: height 12.48, standoff -2.48, extent -70,-237.06 -55.27,-222.19
3D body: height 12.48, standoff -2.48, extent -237.03,-237.06 -222.3,-222.19
3D body: height 12.48, standoff -2.48, extent -195.28,-237.06 -180.54,-222.19
3D body: height 12.48, standoff -2.48, extent -153.52,-237.06 -138.79,-222.19
3D body: height 12.48, standoff -2.48, extent -111.76,-237.06 -97.03,-222.19
3D body: height 12.48, standoff -2.48, extent 243.19,-216.18 257.92,-201.31
3D body: height 12.48, standoff -2.48, extent 201.43,-216.18 216.16,-201.31
3D body: height 12.48, standoff -2.48, extent 34.39,-216.18 49.13,-201.31
3D body: height 12.48, standoff -2.48, extent 76.15,-216.18 90.89,-201.31
3D body: height 12.48, standoff -2.48, extent 117.91,-216.18 132.64,-201.31
3D body: height 12.48, standoff -2.48, extent 159.67,-216.18 174.4,-201.31
3D body: height 12.48, standoff -2.48, extent -7.36,-216.18 7.37,-201.31
3D body: height 12.48, standoff -2.48, extent -49.12,-216.18 -34.39,-201.31
3D body: height 12.48, standoff -2.48, extent -90.88,-216.18 -76.15,-201.31
3D body: height 12.48, standoff -2.48, extent -257.91,-216.18 -243.18,-201.31
3D body: height 12.48, standoff -2.48, extent -216.16,-216.18 -201.42,-201.31
3D body: height 12.48, standoff -2.48, extent -174.4,-216.18 -159.66,-201.31
3D body: height 12.48, standoff -2.48, extent -132.64,-216.18 -117.91,-201.31
3D body: height 12.48, standoff -2.48, extent 222.31,-195.3 237.04,-180.43
3D body: height 12.48, standoff -2.48, extent 55.27,-195.3 70.01,-180.43
3D body: height 12.48, standoff -2.48, extent 97.03,-195.3 111.76,-180.43
3D body: height 12.48, standoff -2.48, extent 138.79,-195.3 153.52,-180.43
3D body: height 12.48, standoff -2.48, extent 180.55,-195.3 195.28,-180.43
3D body: height 12.48, standoff -2.48, extent 13.51,-195.3 28.25,-180.43
3D body: height 12.48, standoff -2.48, extent -28.24,-195.3 -13.51,-180.43
3D body: height 12.48, standoff -2.48, extent -70,-195.3 -55.27,-180.43
3D body: height 12.48, standoff -2.48, extent -237.03,-195.3 -222.3,-180.43
3D body: height 12.48, standoff -2.48, extent -195.28,-195.3 -180.54,-180.43
3D body: height 12.48, standoff -2.48, extent -153.52,-195.3 -138.79,-180.43
3D body: height 12.48, standoff -2.48, extent -111.76,-195.3 -97.03,-180.43
3D body: height 12.48, standoff -2.48, extent 243.19,-174.42 257.92,-159.55
3D body: height 12.48, standoff -2.48, extent 201.43,-174.42 216.16,-159.55
3D body: height 12.48, standoff -2.48, extent 34.39,-174.42 49.13,-159.55
3D body: height 12.48, standoff -2.48, extent 76.15,-174.42 90.89,-159.55
3D body: height 12.48, standoff -2.48, extent 117.91,-174.42 132.64,-159.55
3D body: height 12.48, standoff -2.48, extent 159.67,-174.42 174.4,-159.55
3D body: height 12.48, standoff -2.48, extent -7.36,-174.42 7.37,-159.55
3D body: height 12.48, standoff -2.48, extent -49.12,-174.42 -34.39,-159.55
3D body: height 12.48, standoff -2.48, extent -90.88,-174.42 -76.15,-159.55
3D body: height 12.48, standoff -2.48, extent -257.91,-174.42 -243.18,-159.55
3D body: height 12.48, standoff -2.48, extent -216.16,-174.42 -201.42,-159.55
3D body: height 12.48, standoff -2.48, extent -174.4,-174.42 -159.66,-159.55
3D body: height 12.48, standoff -2.48, extent -132.64,-174.42 -117.91,-159.55
3D body: height 12.48, standoff -2.48, extent 222.31,-153.54 237.04,-138.67
3D body: height 12.48, standoff -2.48, extent 55.27,-153.54 70.01,-138.67
3D body: height 12.48, standoff -2.48, extent 97.03,-153.54 111.76,-138.67
3D body: height 12.48, standoff -2.48, extent 138.79,-153.54 153.52,-138.67
3D body: height 12.48, standoff -2.48, extent 180.55,-153.54 195.28,-138.67
3D body: height 12.48, standoff -2.48, extent 13.51,-153.54 28.25,-138.67
3D body: height 12.48, standoff -2.48, extent -28.24,-153.54 -13.51,-138.67
3D body: height 12.48, standoff -2.48, extent -70,-153.54 -55.27,-138.67
3D body: height 12.48, standoff -2.48, extent -237.03,-153.54 -222.3,-138.67
3D body: height 12.48, standoff -2.48, extent -195.28,-153.54 -180.54,-138.67
3D body: height 12.48, standoff -2.48, extent -153.52,-153.54 -138.79,-138.67
3D body: height 12.48, standoff -2.48, extent -111.76,-153.54 -97.03,-138.67
3D body: height 12.48, standoff -2.48, extent 243.19,-132.66 257.92,-117.79
3D body: height 12.48, standoff -2.48, extent 201.43,-132.66 216.16,-117.79
3D body: height 12.48, standoff -2.48, extent 34.39,-132.66 49.13,-117.79
3D body: height 12.48, standoff -2.48, extent 76.15,-132.66 90.89,-117.79
3D body: height 12.48, standoff -2.48, extent 117.91,-132.66 132.64,-117.79
3D body: height 12.48, standoff -2.48, extent 159.67,-132.66 174.4,-117.79
3D body: height 12.48, standoff -2.48, extent -7.36,-132.66 7.37,-117.79
3D body: height 12.48, standoff -2.48, extent -49.12,-132.66 -34.39,-117.79
3D body: height 12.48, standoff -2.48, extent -90.88,-132.66 -76.15,-117.79
3D body: height 12.48, standoff -2.48, extent -257.91,-132.66 -243.18,-117.79
3D body: height 12.48, standoff -2.48, extent -216.16,-132.66 -201.42,-117.79
3D body: height 12.48, standoff -2.48, extent -174.4,-132.66 -159.66,-117.79
3D body: height 12.48, standoff -2.48, extent -132.64,-132.66 -117.91,-117.79
3D body: height 12.48, standoff -2.48, extent 222.31,-111.78 237.04,-96.91
3D body: height 12.48, standoff -2.48, extent 55.27,-111.78 70.01,-96.91
3D body: height 12.48, standoff -2.48, extent 97.03,-111.78 111.76,-96.91
3D body: height 12.48, standoff -2.48, extent 138.79,-111.78 153.52,-96.91
3D body: height 12.48, standoff -2.48, extent 180.55,-111.78 195.28,-96.91
3D body: height 12.48, standoff -2.48, extent 13.51,-111.78 28.25,-96.91
3D body: height 12.48, standoff -2.48, extent -28.24,-111.78 -13.51,-96.91
3D body: height 12.48, standoff -2.48, extent -70,-111.78 -55.27,-96.91
3D body: height 12.48, standoff -2.48, extent -237.03,-111.78 -222.3,-96.91
3D body: height 12.48, standoff -2.48, extent -195.28,-111.78 -180.54,-96.91
3D body: height 12.48, standoff -2.48, extent -153.52,-111.78 -138.79,-96.91
3D body: height 12.48, standoff -2.48, extent -111.76,-111.78 -97.03,-96.91
3D body: height 12.48, standoff -2.48, extent 243.19,-90.9 257.92,-76.03
3D body: height 12.48, standoff -2.48, extent 201.43,-90.9 216.16,-76.03
3D body: height 12.48, standoff -2.48, extent 34.39,-90.9 49.13,-76.03
3D body: height 12.48, standoff -2.48, extent 76.15,-90.9 90.89,-76.03
3D body: height 12.48, standoff -2.48, extent 117.91,-90.9 132.64,-76.03
3D body: height 12.48, standoff -2.48, extent 159.67,-90.9 174.4,-76.03
3D body: height 12.48, standoff -2.48, extent -7.36,-90.9 7.37,-76.03
3D body: height 12.48, standoff -2.48, extent -49.12,-90.9 -34.39,-76.03
3D body: height 12.48, standoff -2.48, extent -90.88,-90.9 -76.15,-76.03
3D body: height 12.48, standoff -2.48, extent -257.91,-90.9 -243.18,-76.03
3D body: height 12.48, standoff -2.48, extent -216.16,-90.9 -201.42,-76.03
3D body: height 12.48, standoff -2.48, extent -174.4,-90.9 -159.66,-76.03
3D body: height 12.48, standoff -2.48, extent -132.64,-90.9 -117.91,-76.03
3D body: height 12.48, standoff -2.48, extent 222.31,-70.03 237.04,-55.15
3D body: height 12.48, standoff -2.48, extent 55.27,-70.03 70.01,-55.15
3D body: height 12.48, standoff -2.48, extent 97.03,-70.03 111.76,-55.15
3D body: height 12.48, standoff -2.48, extent 138.79,-70.03 153.52,-55.15
3D body: height 12.48, standoff -2.48, extent 180.55,-70.03 195.28,-55.15
3D body: height 12.48, standoff -2.48, extent 13.52,-70.03 28.25,-55.15
3D body: height 12.48, standoff -2.48, extent -28.24,-70.03 -13.51,-55.15
3D body: height 12.48, standoff -2.48, extent -70,-70.03 -55.27,-55.15
3D body: height 12.48, standoff -2.48, extent -237.03,-70.03 -222.3,-55.15
3D body: height 12.48, standoff -2.48, extent -195.28,-70.03 -180.54,-55.15
3D body: height 12.48, standoff -2.48, extent -153.52,-70.03 -138.78,-55.15
3D body: height 12.48, standoff -2.48, extent -111.76,-70.03 -97.03,-55.15
3D body: height 12.48, standoff -2.48, extent 243.19,-49.15 257.92,-34.28
3D body: height 12.48, standoff -2.48, extent 201.43,-49.15 216.16,-34.28
3D body: height 12.48, standoff -2.48, extent 34.39,-49.15 49.13,-34.28
3D body: height 12.48, standoff -2.48, extent 76.15,-49.15 90.89,-34.28
3D body: height 12.48, standoff -2.48, extent 117.91,-49.15 132.64,-34.28
3D body: height 12.48, standoff -2.48, extent 159.67,-49.15 174.4,-34.28
3D body: height 12.48, standoff -2.48, extent -7.36,-49.15 7.37,-34.28
3D body: height 12.48, standoff -2.48, extent -49.12,-49.15 -34.39,-34.28
3D body: height 12.48, standoff -2.48, extent -90.88,-49.15 -76.15,-34.28
3D body: height 12.48, standoff -2.48, extent -257.91,-49.15 -243.18,-34.28
3D body: height 12.48, standoff -2.48, extent -216.16,-49.15 -201.42,-34.28
3D body: height 12.48, standoff -2.48, extent -174.4,-49.15 -159.66,-34.28
3D body: height 12.48, standoff -2.48, extent -132.64,-49.15 -117.91,-34.28
3D body: height 12.48, standoff -2.48, extent 222.31,-28.27 237.04,-13.4
3D body: height 12.48, standoff -2.48, extent 55.27,-28.27 70.01,-13.4
3D body: height 12.48, standoff -2.48, extent 97.03,-28.27 111.76,-13.4
3D body: height 12.48, standoff -2.48, extent 138.79,-28.27 153.52,-13.4
3D body: height 12.48, standoff -2.48, extent 180.55,-28.27 195.28,-13.4
3D body: height 12.48, standoff -2.48, extent 13.52,-28.27 28.25,-13.4
3D body: height 12.48, standoff -2.48, extent -28.24,-28.27 -13.51,-13.4
3D body: height 12.48, standoff -2.48, extent -70,-28.27 -55.27,-13.4
3D body: height 12.48, standoff -2.48, extent -237.03,-28.27 -222.3,-13.4
3D body: height 12.48, standoff -2.48, extent -195.28,-28.27 -180.54,-13.4
3D body: height 12.48, standoff -2.48, extent -153.52,-28.27 -138.78,-13.4
3D body: height 12.48, standoff -2.48, extent -111.76,-28.27 -97.03,-13.4
3D body: height 12.48, standoff -2.48, extent 243.19,-7.39 257.92,7.48
3D body: height 12.48, standoff -2.48, extent 201.43,-7.39 216.16,7.48
3D body: height 12.48, standoff -2.48, extent 34.39,-7.39 49.13,7.48
3D body: height 12.48, standoff -2.48, extent 76.15,-7.39 90.89,7.48
3D body: height 12.48, standoff -2.48, extent 117.91,-7.39 132.64,7.48
3D body: height 12.48, standoff -2.48, extent 159.67,-7.39 174.4,7.48
3D body: height 12.48, standoff -2.48, extent -7.36,-7.39 7.37,7.48
3D body: height 12.48, standoff -2.48, extent -49.12,-7.39 -34.39,7.48
3D body: height 12.48, standoff -2.48, extent -90.88,-7.39 -76.15,7.48
3D body: height 12.48, standoff -2.48, extent -257.91,-7.39 -243.18,7.48
3D body: height 12.48, standoff -2.48, extent -216.16,-7.39 -201.42,7.48
3D body: height 12.48, standoff -2.48, extent -174.4,-7.39 -159.66,7.48
3D body: height 12.48, standoff -2.48, extent -132.64,-7.39 -117.91,7.48
3D body: height 12.48, standoff -2.48, extent 222.31,13.49 237.04,28.36
3D body: height 12.48, standoff -2.48, extent 55.27,13.49 70.01,28.36
3D body: height 12.48, standoff -2.48, extent 97.03,13.49 111.76,28.36
3D body: height 12.48, standoff -2.48, extent 138.79,13.49 153.52,28.36
3D body: height 12.48, standoff -2.48, extent 180.55,13.49 195.28,28.36
3D body: height 12.48, standoff -2.48, extent 13.51,13.49 28.25,28.36
3D body: height 12.48, standoff -2.48, extent -28.24,13.49 -13.51,28.36
3D body: height 12.48, standoff -2.48, extent -70,13.49 -55.27,28.36
3D body: height 12.48, standoff -2.48, extent -237.03,13.49 -222.3,28.36
3D body: height 12.48, standoff -2.48, extent -195.28,13.49 -180.54,28.36
3D body: height 12.48, standoff -2.48, extent -153.52,13.49 -138.79,28.36
3D body: height 12.48, standoff -2.48, extent -111.76,13.49 -97.03,28.36
3D body: height 12.48, standoff -2.48, extent 243.19,34.37 257.92,49.24
3D body: height 12.48, standoff -2.48, extent 201.43,34.37 216.16,49.24
3D body: height 12.48, standoff -2.48, extent 34.39,34.37 49.13,49.24
3D body: height 12.48, standoff -2.48, extent 76.15,34.37 90.89,49.24
3D body: height 12.48, standoff -2.48, extent 117.91,34.37 132.64,49.24
3D body: height 12.48, standoff -2.48, extent 159.67,34.37 174.4,49.24
3D body: height 12.48, standoff -2.48, extent -7.36,34.37 7.37,49.24
3D body: height 12.48, standoff -2.48, extent -49.12,34.37 -34.39,49.24
3D body: height 12.48, standoff -2.48, extent -90.88,34.37 -76.15,49.24
3D body: height 12.48, standoff -2.48, extent -257.91,34.37 -243.18,49.24
3D body: height 12.48, standoff -2.48, extent -216.16,34.37 -201.42,49.24
3D body: height 12.48, standoff -2.48, extent -174.4,34.37 -159.66,49.24
3D body: height 12.48, standoff -2.48, extent -132.64,34.37 -117.91,49.24
3D body: height 12.48, standoff -2.48, extent 222.31,55.25 237.04,70.12
3D body: height 12.48, standoff -2.48, extent 55.27,55.25 70.01,70.12
3D body: height 12.48, standoff -2.48, extent 97.03,55.25 111.76,70.12
3D body: height 12.48, standoff -2.48, extent 138.79,55.25 153.52,70.12
3D body: height 12.48, standoff -2.48, extent 180.55,55.25 195.28,70.12
3D body: height 12.48, standoff -2.48, extent 13.51,55.25 28.25,70.12
3D body: height 12.48, standoff -2.48, extent -28.24,55.25 -13.51,70.12
3D body: height 12.48, standoff -2.48, extent -70,55.25 -55.27,70.12
3D body: height 12.48, standoff -2.48, extent -237.03,55.25 -222.3,70.12
3D body: height 12.48, standoff -2.48, extent -195.28,55.25 -180.54,70.12
3D body: height 12.48, standoff -2.48, extent -153.52,55.25 -138.79,70.12
3D body: height 12.48, standoff -2.48, extent -111.76,55.25 -97.03,70.12
3D body: height 12.48, standoff -2.48, extent 243.19,76.13 257.92,91
3D body: height 12.48, standoff -2.48, extent 201.43,76.13 216.16,91
3D body: height 12.48, standoff -2.48, extent 34.39,76.13 49.13,91
3D body: height 12.48, standoff -2.48, extent 76.15,76.13 90.89,91
3D body: height 12.48, standoff -2.48, extent 117.91,76.13 132.64,91
3D body: height 12.48, standoff -2.48, extent 159.67,76.13 174.4,91
3D body: height 12.48, standoff -2.48, extent -7.36,76.13 7.37,91
3D body: height 12.48, standoff -2.48, extent -49.12,76.13 -34.39,91
3D body: height 12.48, standoff -2.48, extent -90.88,76.13 -76.15,91
3D body: height 12.48, standoff -2.48, extent -257.91,76.13 -243.18,91
3D body: height 12.48, standoff -2.48, extent -216.16,76.13 -201.42,91
3D body: height 12.48, standoff -2.48, extent -174.4,76.13 -159.66,91
3D body: height 12.48, standoff -2.48, extent -132.64,76.13 -117.91,91
3D body: height 12.48, standoff -2.48, extent 222.31,97.01 237.04,111.88
3D body: height 12.48, standoff -2.48, extent 55.27,97.01 70.01,111.88
3D body: height 12.48, standoff -2.48, extent 97.03,97.01 111.76,111.88
3D body: height 12.48, standoff -2.48, extent 138.79,97.01 153.52,111.88
3D body: height 12.48, standoff -2.48, extent 180.55,97.01 195.28,111.88
3D body: height 12.48, standoff -2.48, extent 13.51,97.01 28.25,111.88
3D body: height 12.48, standoff -2.48, extent -28.24,97.01 -13.51,111.88
3D body: height 12.48, standoff -2.48, extent -70,97.01 -55.27,111.88
3D body: height 12.48, standoff -2.48, extent -237.03,97.01 -222.3,111.88
3D body: height 12.48, standoff -2.48, extent -195.28,97.01 -180.54,111.88
3D body: height 12.48, standoff -2.48, extent -153.52,97.01 -138.79,111.88
3D body: height 12.48, standoff -2.48, extent -111.76,97.01 -97.03,111.88
3D body: height 12.48, standoff -2.48, extent 243.19,117.89 257.92,132.76
3D body: height 12.48, standoff -2.48, extent 201.43,117.89 216.16,132.76
3D body: height 12.48, standoff -2.48, extent 34.39,117.89 49.13,132.76
3D body: height 12.48, standoff -2.48, extent 76.15,117.89 90.89,132.76
3D body: height 12.48, standoff -2.48, extent 117.91,117.89 132.64,132.76
3D body: height 12.48, standoff -2.48, extent 159.67,117.89 174.4,132.76
3D body: height 12.48, standoff -2.48, extent -7.36,117.89 7.37,132.76
3D body: height 12.48, standoff -2.48, extent -49.12,117.89 -34.39,132.76
3D body: height 12.48, standoff -2.48, extent -90.88,117.89 -76.15,132.76
3D body: height 12.48, standoff -2.48, extent -257.91,117.89 -243.18,132.76
3D body: height 12.48, standoff -2.48, extent -216.16,117.89 -201.42,132.76
3D body: height 12.48, standoff -2.48, extent -174.4,117.89 -159.66,132.76
3D body: height 12.48, standoff -2.48, extent -132.64,117.89 -117.91,132.76
3D body: height 12.48, standoff -2.48, extent 222.31,138.77 237.04,153.64
3D body: height 12.48, standoff -2.48, extent 55.27,138.77 70.01,153.64
3D body: height 12.48, standoff -2.48, extent 97.03,138.77 111.76,153.64
3D body: height 12.48, standoff -2.48, extent 138.79,138.77 153.52,153.64
3D body: height 12.48, standoff -2.48, extent 180.55,138.77 195.28,153.64
3D body: height 12.48, standoff -2.48, extent 13.51,138.77 28.25,153.64
3D body: height 12.48, standoff -2.48, extent -28.24,138.77 -13.51,153.64
3D body: height 12.48, standoff -2.48, extent -70,138.77 -55.27,153.64
3D body: height 12.48, standoff -2.48, extent -237.03,138.77 -222.3,153.64
3D body: height 12.48, standoff -2.48, extent -195.28,138.77 -180.54,153.64
3D body: height 12.48, standoff -2.48, extent -153.52,138.77 -138.79,153.64
3D body: height 12.48, standoff -2.48, extent -111.76,138.77 -97.03,153.64
3D body: height 12.48, standoff -2.48, extent 243.19,159.65 257.92,174.52
3D body: height 12.48, standoff -2.48, extent 201.43,159.65 216.16,174.52
3D body: height 12.48, standoff -2.48, extent 34.39,159.65 49.13,174.52
3D body: height 12.48, standoff -2.48, extent 76.15,159.65 90.89,174.52
3D body: height 12.48, standoff -2.48, extent 117.91,159.65 132.64,174.52
3D body: height 12.48, standoff -2.48, extent 159.67,159.65 174.4,174.52
3D body: height 12.48, standoff -2.48, extent -7.36,159.65 7.37,174.52
3D body: height 12.48, standoff -2.48, extent -49.12,159.65 -34.39,174.52
3D body: height 12.48, standoff -2.48, extent -90.88,159.65 -76.15,174.52
3D body: height 12.48, standoff -2.48, extent -257.91,159.65 -243.18,174.52
3D body: height 12.48, standoff -2.48, extent -216.16,159.65 -201.42,174.52
3D body: height 12.48, standoff -2.48, extent -174.4,159.65 -159.66,174.52
3D body: height 12.48, standoff -2.48, extent -132.64,159.65 -117.91,174.52
3D body: height 12.48, standoff -2.48, extent 222.31,180.52 237.04,195.39
3D body: height 12.48, standoff -2.48, extent 55.27,180.52 70.01,195.39
3D body: height 12.48, standoff -2.48, extent 97.03,180.52 111.76,195.39
3D body: height 12.48, standoff -2.48, extent 138.79,180.52 153.52,195.39
3D body: height 12.48, standoff -2.48, extent 180.55,180.52 195.28,195.39
3D body: height 12.48, standoff -2.48, extent 13.51,180.52 28.25,195.39
3D body: height 12.48, standoff -2.48, extent -28.24,180.52 -13.51,195.39
3D body: height 12.48, standoff -2.48, extent -70,180.52 -55.27,195.39
3D body: height 12.48, standoff -2.48, extent -237.03,180.52 -222.3,195.39
3D body: height 12.48, standoff -2.48, extent -195.28,180.52 -180.54,195.39
3D body: height 12.48, standoff -2.48, extent -153.52,180.52 -138.79,195.39
3D body: height 12.48, standoff -2.48, extent -111.76,180.52 -97.03,195.39
3D body: height 12.48, standoff -2.48, extent 243.19,201.4 257.92,216.27
3D body: height 12.48, standoff -2.48, extent 201.43,201.4 216.16,216.27
3D body: height 12.48, standoff -2.48, extent 34.39,201.4 49.13,216.27
3D body: height 12.48, standoff -2.48, extent 76.15,201.4 90.89,216.27
3D body: height 12.48, standoff -2.48, extent 117.91,201.4 132.64,216.27
3D body: height 12.48, standoff -2.48, extent 159.67,201.4 174.4,216.27
3D body: height 12.48, standoff -2.48, extent -7.36,201.4 7.37,216.27
3D body: height 12.48, standoff -2.48, extent -49.12,201.4 -34.39,216.27
3D body: height 12.48, standoff -2.48, extent -90.88,201.4 -76.15,216.27
3D body: height 12.48, standoff -2.48, extent -257.91,201.4 -243.18,216.27
3D body: height 12.48, standoff -2.48, extent -216.16,201.4 -201.42,216.27
3D body: height 12.48, standoff -2.48, extent -174.4,201.4 -159.66,216.27
3D body: height 12.48, standoff -2.48, extent -132.64,201.4 -117.91,216.27
3D body: height 12.48, standoff -2.48, extent 222.31,222.28 237.04,237.15
3D body: height 12.48, standoff -2.48, extent 55.27,222.28 70.01,237.15
3D body: height 12.48, standoff -2.48, extent 97.03,222.28 111.76,237.15
3D body: height 12.48, standoff -2.48, extent 138.79,222.28 153.52,237.15
3D body: height 12.48, standoff -2.48, extent 180.55,222.28 195.28,237.15
3D body: height 12.48, standoff -2.48, extent 13.51,222.28 28.25,237.15
3D body: height 12.48, standoff -2.48, extent -28.24,222.28 -13.51,237.15
3D body: height 12.48, standoff -2.48, extent -70,222.28 -55.27,237.15
3D body: height 12.48, standoff -2.48, extent -237.03,222.28 -222.3,237.15
3D body: height 12.48, standoff -2.48, extent -195.28,222.28 -180.54,237.15
3D body: height 12.48, standoff -2.48, extent -153.52,222.28 -138.79,237.15
3D body: height 12.48, standoff -2.48, extent -111.76,222.28 -97.03,237.15
3D body: height 12.48, standoff -2.48, extent 243.19,243.16 257.92,258.03
3D body: height 12.48, standoff -2.48, extent 201.43,243.16 216.16,258.03
3D body: height 12.48, standoff -2.48, extent 34.39,243.16 49.13,258.03
3D body: height 12.48, standoff -2.48, extent 76.15,243.16 90.89,258.03
3D body: height 12.48, standoff -2.48, extent 117.91,243.16 132.64,258.03
3D body: height 12.48, standoff -2.48, extent 159.67,243.16 174.4,258.03
3D body: height 12.48, standoff -2.48, extent -7.36,243.16 7.37,258.03
3D body: height 12.48, standoff -2.48, extent -49.12,243.16 -34.39,258.03
3D body: height 12.48, standoff -2.48, extent -90.88,243.16 -76.15,258.03
3D body: height 12.48, standoff -2.48, extent -257.91,243.16 -243.18,258.03
3D body: height 12.48, standoff -2.48, extent -216.16,243.16 -201.42,258.03
3D body: height 12.48, standoff -2.48, extent -174.4,243.16 -159.66,258.03
3D body: height 12.48, standoff -2.48, extent -132.64,243.16 -117.91,258.03
3D body: height 12.48, standoff -2.48, extent 243.19,282.53 257.92,297.4
3D body: height 12.48, standoff -2.48, extent 201.43,282.53 216.16,297.4
3D body: height 12.48, standoff -2.48, extent 34.39,282.53 49.13,297.4
3D body: height 12.48, standoff -2.48, extent 76.15,282.53 90.89,297.4
3D body: height 12.48, standoff -2.48, extent 117.91,282.53 132.64,297.4
3D body: height 12.48, standoff -2.48, extent 159.67,282.53 174.4,297.4
3D body: height 12.48, standoff -2.48, extent -7.36,282.53 7.37,297.4
3D body: height 12.48, standoff -2.48, extent -49.12,282.53 -34.39,297.4
3D body: height 12.48, standoff -2.48, extent -90.88,282.53 -76.15,297.4
3D body: height 12.48, standoff -2.48, extent -257.91,282.53 -243.18,297.4
3D body: height 12.48, standoff -2.48, extent -216.16,282.53 -201.42,297.4
3D body: height 12.48, standoff -2.48, extent -174.4,282.53 -159.66,297.4
3D body: height 12.48, standoff -2.48, extent -132.64,282.53 -117.91,297.4
3D body: height 12.48, standoff -2.48, extent 264.06,303.41 278.8,318.28
3D body: height 12.48, standoff -2.48, extent 222.31,303.41 237.04,318.28
3D body: height 12.48, standoff -2.48, extent 180.55,303.41 195.28,318.28
3D body: height 12.48, standoff -2.48, extent 13.51,303.41 28.25,318.28
3D body: height 12.48, standoff -2.48, extent 55.27,303.41 70.01,318.28
3D body: height 12.48, standoff -2.48, extent 97.03,303.41 111.76,318.28
3D body: height 12.48, standoff -2.48, extent 138.79,303.41 153.52,318.28
3D body: height 12.48, standoff -2.48, extent -28.24,303.41 -13.51,318.28
3D body: height 12.48, standoff -2.48, extent -70,303.41 -55.27,318.28
3D body: height 12.48, standoff -2.48, extent -111.76,303.41 -97.03,318.28
3D body: height 12.48, standoff -2.48, extent -278.79,303.41 -264.06,318.28
3D body: height 12.48, standoff -2.48, extent -237.03,303.41 -222.3,318.28
3D body: height 12.48, standoff -2.48, extent -195.28,303.41 -180.54,318.28
3D body: height 12.48, standoff -2.48, extent -153.52,303.41 -138.79,318.28
3D body: height 12.48, standoff -2.48, extent 284.94,324.29 299.68,339.16
3D body: height 12.48, standoff -2.48, extent 243.19,324.29 257.92,339.16
3D body: height 12.48, standoff -2.48, extent 201.43,324.29 216.16,339.16
3D body: height 12.48, standoff -2.48, extent 159.67,324.29 174.4,339.16
3D body: height 12.48, standoff -2.48, extent -7.36,324.29 7.37,339.16
3D body: height 12.48, standoff -2.48, extent 34.39,324.29 49.13,339.16
3D body: height 12.48, standoff -2.48, extent 76.15,324.29 90.89,339.16
3D body: height 12.48, standoff -2.48, extent 117.91,324.29 132.64,339.16
3D body: height 12.48, standoff -2.48, extent -49.12,324.29 -34.39,339.16
3D body: height 12.48, standoff -2.48, extent -90.88,324.29 -76.15,339.16
3D body: height 12.48, standoff -2.48, extent -132.64,324.29 -117.91,339.16
3D body: height 12.48, standoff -2.48, extent -299.67,324.29 -284.94,339.16
3D body: height 12.48, standoff -2.48, extent -257.91,324.29 -243.18,339.16
3D body: height 12.48, standoff -2.48, extent -216.16,324.29 -201.42,339.16
3D body: height 12.48, standoff -2.48, extent -174.4,324.29 -159.66,339.16
3D body: height 12.48, standoff -2.48, extent 264.06,345.17 278.8,360.04
3D body: height 12.48, standoff -2.48, extent 305.82,345.17 320.56,360.04
3D body: height 12.48, standoff -2.48, extent 222.31,345.17 237.04,360.04
3D body: height 12.48, standoff -2.48, extent 180.55,345.17 195.28,360.04
3D body: height 12.48, standoff -2.48, extent 138.79,345.17 153.52,360.04
3D body: height 12.48, standoff -2.48, extent -28.24,345.17 -13.51,360.04
3D body: height 12.48, standoff -2.48, extent 13.51,345.17 28.25,360.04
3D body: height 12.48, standoff -2.48, extent 55.27,345.17 70.01,360.04
3D body: height 12.48, standoff -2.48, extent 97.03,345.17 111.76,360.04
3D body: height 12.48, standoff -2.48, extent -70,345.17 -55.27,360.04
3D body: height 12.48, standoff -2.48, extent -111.76,345.17 -97.03,360.04
3D body: height 12.48, standoff -2.48, extent -153.52,345.17 -138.79,360.04
3D body: height 12.48, standoff -2.48, extent -320.55,345.17 -305.82,360.04
3D body: height 12.48, standoff -2.48, extent -278.79,345.17 -264.06,360.04
3D body: height 12.48, standoff -2.48, extent -237.03,345.17 -222.3,360.04
3D body: height 12.48, standoff -2.48, extent -195.28,345.17 -180.54,360.04
3D body: height 12.48, standoff -2.48, extent 243.19,366.05 257.92,380.92
3D body: height 12.48, standoff -2.48, extent 284.94,366.05 299.68,380.92
3D body: height 12.48, standoff -2.48, extent 326.7,366.05 341.43,380.92
3D body: height 12.48, standoff -2.48, extent 201.43,366.05 216.16,380.92
3D body: height 12.48, standoff -2.48, extent 159.67,366.05 174.4,380.92
3D body: height 12.48, standoff -2.48, extent 117.91,366.05 132.64,380.92
3D body: height 12.48, standoff -2.48, extent -49.12,366.05 -34.39,380.92
3D body: height 12.48, standoff -2.48, extent -7.36,366.05 7.37,380.92
3D body: height 12.48, standoff -2.48, extent 34.39,366.05 49.13,380.92
3D body: height 12.48, standoff -2.48, extent 76.15,366.05 90.89,380.92
3D body: height 12.48, standoff -2.48, extent -90.88,366.05 -76.15,380.92
3D body: height 12.48, standoff -2.48, extent -132.64,366.05 -117.91,380.92
3D body: height 12.48, standoff -2.48, extent -174.4,366.05 -159.66,380.92
3D body: height 12.48, standoff -2.48, extent -341.43,366.05 -326.7,380.92
3D body: height 12.48, standoff -2.48, extent -299.67,366.05 -284.94,380.92
3D body: height 12.48, standoff -2.48, extent -257.91,366.05 -243.18,380.92
3D body: height 12.48, standoff -2.48, extent -216.16,366.05 -201.42,380.92
3D body: height 12.48, standoff -2.48, extent 222.31,386.93 237.04,401.8
3D body: height 12.48, standoff -2.48, extent 264.06,386.93 278.8,401.8
3D body: height 12.48, standoff -2.48, extent 305.82,386.93 320.56,401.8
3D body: height 12.48, standoff -2.48, extent 347.58,386.93 362.31,401.8
3D body: height 12.48, standoff -2.48, extent 180.55,386.93 195.28,401.8
3D body: height 12.48, standoff -2.48, extent 138.79,386.93 153.52,401.8
3D body: height 12.48, standoff -2.48, extent 97.03,386.93 111.76,401.8
3D body: height 12.48, standoff -2.48, extent -70,386.93 -55.27,401.8
3D body: height 12.48, standoff -2.48, extent -28.24,386.93 -13.51,401.8
3D body: height 12.48, standoff -2.48, extent 13.51,386.93 28.25,401.8
3D body: height 12.48, standoff -2.48, extent 55.27,386.93 70.01,401.8
3D body: height 12.48, standoff -2.48, extent -111.76,386.93 -97.03,401.8
3D body: height 12.48, standoff -2.48, extent -153.52,386.93 -138.79,401.8
3D body: height 12.48, standoff -2.48, extent -195.28,386.93 -180.54,401.8
3D body: height 12.48, standoff -2.48, extent -362.31,386.93 -347.58,401.8
3D body: height 12.48, standoff -2.48, extent -320.55,386.93 -305.82,401.8
3D body: height 12.48, standoff -2.48, extent -278.79,386.93 -264.06,401.8
3D body: height 12.48, standoff -2.48, extent -237.03,386.93 -222.3,401.8
3D body: height 12.48, standoff -2.48, extent 368.46,407.81 383.19,422.68
3D body: height 12.48, standoff -2.48, extent 201.43,407.81 216.16,422.68
3D body: height 12.48, standoff -2.48, extent 243.19,407.81 257.92,422.68
3D body: height 12.48, standoff -2.48, extent 284.94,407.81 299.68,422.68
3D body: height 12.48, standoff -2.48, extent 326.7,407.81 341.43,422.68
3D body: height 12.48, standoff -2.48, extent 159.67,407.81 174.4,422.68
3D body: height 12.48, standoff -2.48, extent 117.91,407.81 132.64,422.68
3D body: height 12.48, standoff -2.48, extent 76.15,407.81 90.89,422.68
3D body: height 12.48, standoff -2.48, extent -90.88,407.81 -76.15,422.68
3D body: height 12.48, standoff -2.48, extent -49.12,407.81 -34.39,422.68
3D body: height 12.48, standoff -2.48, extent -7.36,407.81 7.37,422.68
3D body: height 12.48, standoff -2.48, extent 34.39,407.81 49.13,422.68
3D body: height 12.48, standoff -2.48, extent -132.64,407.81 -117.91,422.68
3D body: height 12.48, standoff -2.48, extent -174.4,407.81 -159.66,422.68
3D body: height 12.48, standoff -2.48, extent -216.16,407.81 -201.42,422.68
3D body: height 12.48, standoff -2.48, extent -383.19,407.81 -368.46,422.68
3D body: height 12.48, standoff -2.48, extent -341.43,407.81 -326.7,422.68
3D body: height 12.48, standoff -2.48, extent -299.67,407.81 -284.94,422.68
3D body: height 12.48, standoff -2.48, extent -257.91,407.81 -243.18,422.68
3D body: height 12.48, standoff -2.48, extent 389.34,428.69 404.07,443.56
3D body: height 12.48, standoff -2.48, extent 347.58,428.69 362.31,443.56
3D body: height 12.48, standoff -2.48, extent 180.55,428.69 195.28,443.56
3D body: height 12.48, standoff -2.48, extent 222.31,428.69 237.04,443.56
3D body: height 12.48, standoff -2.48, extent 264.06,428.69 278.8,443.56
3D body: height 12.48, standoff -2.48, extent 305.82,428.69 320.56,443.56
3D body: height 12.48, standoff -2.48, extent 138.79,428.69 153.52,443.56
3D body: height 12.48, standoff -2.48, extent 97.03,428.69 111.76,443.56
3D body: height 12.48, standoff -2.48, extent 55.27,428.69 70.01,443.56
3D body: height 12.48, standoff -2.48, extent -111.76,428.69 -97.03,443.56
3D body: height 12.48, standoff -2.48, extent -70,428.69 -55.27,443.56
3D body: height 12.48, standoff -2.48, extent -28.24,428.69 -13.51,443.56
3D body: height 12.48, standoff -2.48, extent 13.51,428.69 28.25,443.56
3D body: height 12.48, standoff -2.48, extent -153.52,428.69 -138.79,443.56
3D body: height 12.48, standoff -2.48, extent -195.28,428.69 -180.54,443.56
3D body: height 12.48, standoff -2.48, extent -237.03,428.69 -222.3,443.56
3D body: height 12.48, standoff -2.48, extent -404.07,428.69 -389.33,443.56
3D body: height 12.48, standoff -2.48, extent -362.31,428.69 -347.58,443.56
3D body: height 12.48, standoff -2.48, extent -320.55,428.69 -305.82,443.56
3D body: height 12.48, standoff -2.48, extent -278.79,428.69 -264.06,443.56
3D body: height 12.48, standoff -2.48, extent 410.22,449.56 424.95,464.43
3D body: height 12.48, standoff -2.48, extent 368.46,449.56 383.19,464.43
3D body: height 12.48, standoff -2.48, extent 326.7,449.56 341.43,464.43
3D body: height 12.48, standoff -2.48, extent 159.67,449.56 174.4,464.43
3D body: height 12.48, standoff -2.48, extent 201.43,449.56 216.16,464.43
3D body: height 12.48, standoff -2.48, extent 243.19,449.56 257.92,464.43
3D body: height 12.48, standoff -2.48, extent 284.94,449.56 299.68,464.43
3D body: height 12.48, standoff -2.48, extent 117.91,449.56 132.64,464.43
3D body: height 12.48, standoff -2.48, extent 76.15,449.56 90.89,464.43
3D body: height 12.48, standoff -2.48, extent 34.39,449.56 49.13,464.43
3D body: height 12.48, standoff -2.48, extent -132.64,449.56 -117.91,464.43
3D body: height 12.48, standoff -2.48, extent -90.88,449.56 -76.15,464.43
3D body: height 12.48, standoff -2.48, extent -49.12,449.56 -34.39,464.43
3D body: height 12.48, standoff -2.48, extent -7.36,449.56 7.37,464.43
3D body: height 12.48, standoff -2.48, extent -174.4,449.56 -159.66,464.43
3D body: height 12.48, standoff -2.48, extent -216.16,449.56 -201.42,464.43
3D body: height 12.48, standoff -2.48, extent -257.91,449.56 -243.18,464.43
3D body: height 12.48, standoff -2.48, extent -424.95,449.56 -410.21,464.43
3D body: height 12.48, standoff -2.48, extent -383.19,449.56 -368.46,464.43
3D body: height 12.48, standoff -2.48, extent -341.43,449.56 -326.7,464.43
3D body: height 12.48, standoff -2.48, extent -299.67,449.56 -284.94,464.43
3D body: height 12.48, standoff -2.48, extent 431.1,470.44 445.83,485.31
3D body: height 12.48, standoff -2.48, extent 389.34,470.44 404.07,485.31
3D body: height 12.48, standoff -2.48, extent 347.58,470.44 362.31,485.31
3D body: height 12.48, standoff -2.48, extent 305.82,470.44 320.56,485.31
3D body: height 12.48, standoff -2.48, extent 138.79,470.44 153.52,485.31
3D body: height 12.48, standoff -2.48, extent 180.55,470.44 195.28,485.31
3D body: height 12.48, standoff -2.48, extent 222.31,470.44 237.04,485.31
3D body: height 12.48, standoff -2.48, extent 264.06,470.44 278.8,485.31
3D body: height 12.48, standoff -2.48, extent 97.03,470.44 111.76,485.31
3D body: height 12.48, standoff -2.48, extent 55.27,470.44 70.01,485.31
3D body: height 12.48, standoff -2.48, extent 13.51,470.44 28.25,485.31
3D body: height 12.48, standoff -2.48, extent -153.52,470.44 -138.79,485.31
3D body: height 12.48, standoff -2.48, extent -111.76,470.44 -97.03,485.31
3D body: height 12.48, standoff -2.48, extent -70,470.44 -55.27,485.31
3D body: height 12.48, standoff -2.48, extent -28.24,470.44 -13.51,485.31
3D body: height 12.48, standoff -2.48, extent -195.28,470.44 -180.54,485.31
3D body: height 12.48, standoff -2.48, extent -237.03,470.44 -222.3,485.31
3D body: height 12.48, standoff -2.48, extent -278.79,470.44 -264.06,485.31
3D body: height 12.48, standoff -2.48, extent -445.83,470.44 -431.09,485.31
3D body: height 12.48, standoff -2.48, extent -404.07,470.44 -389.33,485.31
3D body: height 12.48, standoff -2.48, extent -362.31,470.44 -347.58,485.31
3D body: height 12.48, standoff -2.48, extent -320.55,470.44 -305.82,485.31
3D body: height 12.48, standoff -2.48, extent 410.22,491.32 424.95,506.19
3D body: height 12.48, standoff -2.48, extent 451.98,491.32 466.71,506.19
3D body: height 12.48, standoff -2.48, extent 368.46,491.32 383.19,506.19
3D body: height 12.48, standoff -2.48, extent 326.7,491.32 341.43,506.19
3D body: height 12.48, standoff -2.48, extent 284.94,491.32 299.68,506.19
3D body: height 12.48, standoff -2.48, extent 117.91,491.32 132.64,506.19
3D body: height 12.48, standoff -2.48, extent 159.67,491.32 174.4,506.19
3D body: height 12.48, standoff -2.48, extent 201.43,491.32 216.16,506.19
3D body: height 12.48, standoff -2.48, extent 243.19,491.32 257.92,506.19
3D body: height 12.48, standoff -2.48, extent 76.15,491.32 90.89,506.19
3D body: height 12.48, standoff -2.48, extent 34.39,491.32 49.13,506.19
3D body: height 12.48, standoff -2.48, extent -7.36,491.32 7.37,506.19
3D body: height 12.48, standoff -2.48, extent -174.4,491.32 -159.66,506.19
3D body: height 12.48, standoff -2.48, extent -132.64,491.32 -117.91,506.19
3D body: height 12.48, standoff -2.48, extent -90.88,491.32 -76.15,506.19
3D body: height 12.48, standoff -2.48, extent -49.12,491.32 -34.39,506.19
3D body: height 12.48, standoff -2.48, extent -216.16,491.32 -201.42,506.19
3D body: height 12.48, standoff -2.48, extent -257.91,491.32 -243.18,506.19
3D body: height 12.48, standoff -2.48, extent -299.67,491.32 -284.94,506.19
3D body: height 12.48, standoff -2.48, extent -466.7,491.32 -451.97,506.19
3D body: height 12.48, standoff -2.48, extent -424.95,491.32 -410.21,506.19
3D body: height 12.48, standoff -2.48, extent -383.19,491.32 -368.46,506.19
3D body: height 12.48, standoff -2.48, extent -341.43,491.32 -326.7,506.19
3D body: height 12.48, standoff -2.48, extent 389.34,512.2 404.07,527.07
3D body: height 12.48, standoff -2.48, extent 431.1,512.2 445.83,527.07
3D body: height 12.48, standoff -2.48, extent 472.86,512.2 487.59,527.07
3D body: height 12.48, standoff -2.48, extent 347.58,512.2 362.31,527.07
3D body: height 12.48, standoff -2.48, extent 305.82,512.2 320.56,527.07
3D body: height 12.48, standoff -2.48, extent 264.06,512.2 278.8,527.07
3D body: height 12.48, standoff -2.48, extent 97.03,512.2 111.76,527.07
3D body: height 12.48, standoff -2.48, extent 138.79,512.2 153.52,527.07
3D body: height 12.48, standoff -2.48, extent 180.55,512.2 195.28,527.07
3D body: height 12.48, standoff -2.48, extent 222.31,512.2 237.04,527.07
3D body: height 12.48, standoff -2.48, extent 55.27,512.2 70.01,527.07
3D body: height 12.48, standoff -2.48, extent 13.51,512.2 28.25,527.07
3D body: height 12.48, standoff -2.48, extent -28.24,512.2 -13.51,527.07
3D body: height 12.48, standoff -2.48, extent -195.28,512.2 -180.54,527.07
3D body: height 12.48, standoff -2.48, extent -153.52,512.2 -138.79,527.07
3D body: height 12.48, standoff -2.48, extent -111.76,512.2 -97.03,527.07
3D body: height 12.48, standoff -2.48, extent -70,512.2 -55.27,527.07
3D body: height 12.48, standoff -2.48, extent -237.03,512.2 -222.3,527.07
3D body: height 12.48, standoff -2.48, extent -278.79,512.2 -264.06,527.07
3D body: height 12.48, standoff -2.48, extent -320.55,512.2 -305.82,527.07
3D body: height 12.48, standoff -2.48, extent -487.58,512.2 -472.85,527.07
3D body: height 12.48, standoff -2.48, extent -445.83,512.2 -431.09,527.07
3D body: height 12.48, standoff -2.48, extent -404.07,512.2 -389.33,527.07
3D body: height 12.48, standoff -2.48, extent -362.31,512.2 -347.58,527.07
3D body: height 12.48, standoff -2.48, extent 368.46,533.08 383.19,547.95
3D body: height 12.48, standoff -2.48, extent 410.22,533.08 424.95,547.95
3D body: height 12.48, standoff -2.48, extent 451.98,533.08 466.71,547.95
3D body: height 12.48, standoff -2.48, extent 493.73,533.08 508.47,547.95
3D body: height 12.48, standoff -2.48, extent 326.7,533.08 341.43,547.95
3D body: height 12.48, standoff -2.48, extent 284.94,533.08 299.68,547.95
3D body: height 12.48, standoff -2.48, extent 243.19,533.08 257.92,547.95
3D body: height 12.48, standoff -2.48, extent 76.15,533.08 90.89,547.95
3D body: height 12.48, standoff -2.48, extent 117.91,533.08 132.64,547.95
3D body: height 12.48, standoff -2.48, extent 159.67,533.08 174.4,547.95
3D body: height 12.48, standoff -2.48, extent 201.43,533.08 216.16,547.95
3D body: height 12.48, standoff -2.48, extent 34.39,533.08 49.13,547.95
3D body: height 12.48, standoff -2.48, extent -7.36,533.08 7.37,547.95
3D body: height 12.48, standoff -2.48, extent -49.12,533.08 -34.39,547.95
3D body: height 12.48, standoff -2.48, extent -216.16,533.08 -201.42,547.95
3D body: height 12.48, standoff -2.48, extent -174.4,533.08 -159.66,547.95
3D body: height 12.48, standoff -2.48, extent -132.64,533.08 -117.91,547.95
3D body: height 12.48, standoff -2.48, extent -90.88,533.08 -76.15,547.95
3D body: height 12.48, standoff -2.48, extent -257.91,533.08 -243.18,547.95
3D body: height 12.48, standoff -2.48, extent -299.67,533.08 -284.94,547.95
3D body: height 12.48, standoff -2.48, extent -341.43,533.08 -326.7,547.95
3D body: height 12.48, standoff -2.48, extent -508.46,533.08 -493.73,547.95
3D body: height 12.48, standoff -2.48, extent -466.7,533.08 -451.97,547.95
3D body: height 12.48, standoff -2.48, extent -424.95,533.08 -410.21,547.95
3D body: height 12.48, standoff -2.48, extent -383.19,533.08 -368.46,547.95
3D body: height 38.03, standoff 11.42, extent -570.87,-570.87 570.87,570.87
3D body: height 57.72, standoff 37.8, extent -563,-563 563,563
3D body: height 90.55, standoff 55.12, extent -444.88,-444.88 444.88,444.88
3D body: height 57.78, standoff 57.68, extent -510.34,480.4 -480.46,510.34